# Altium schematic symbol library FPGA_Xilinx.SchLib: 34 symbols (part 1 of 2)
Pins are listed as number, name and electrical type; pins without a type are passive.

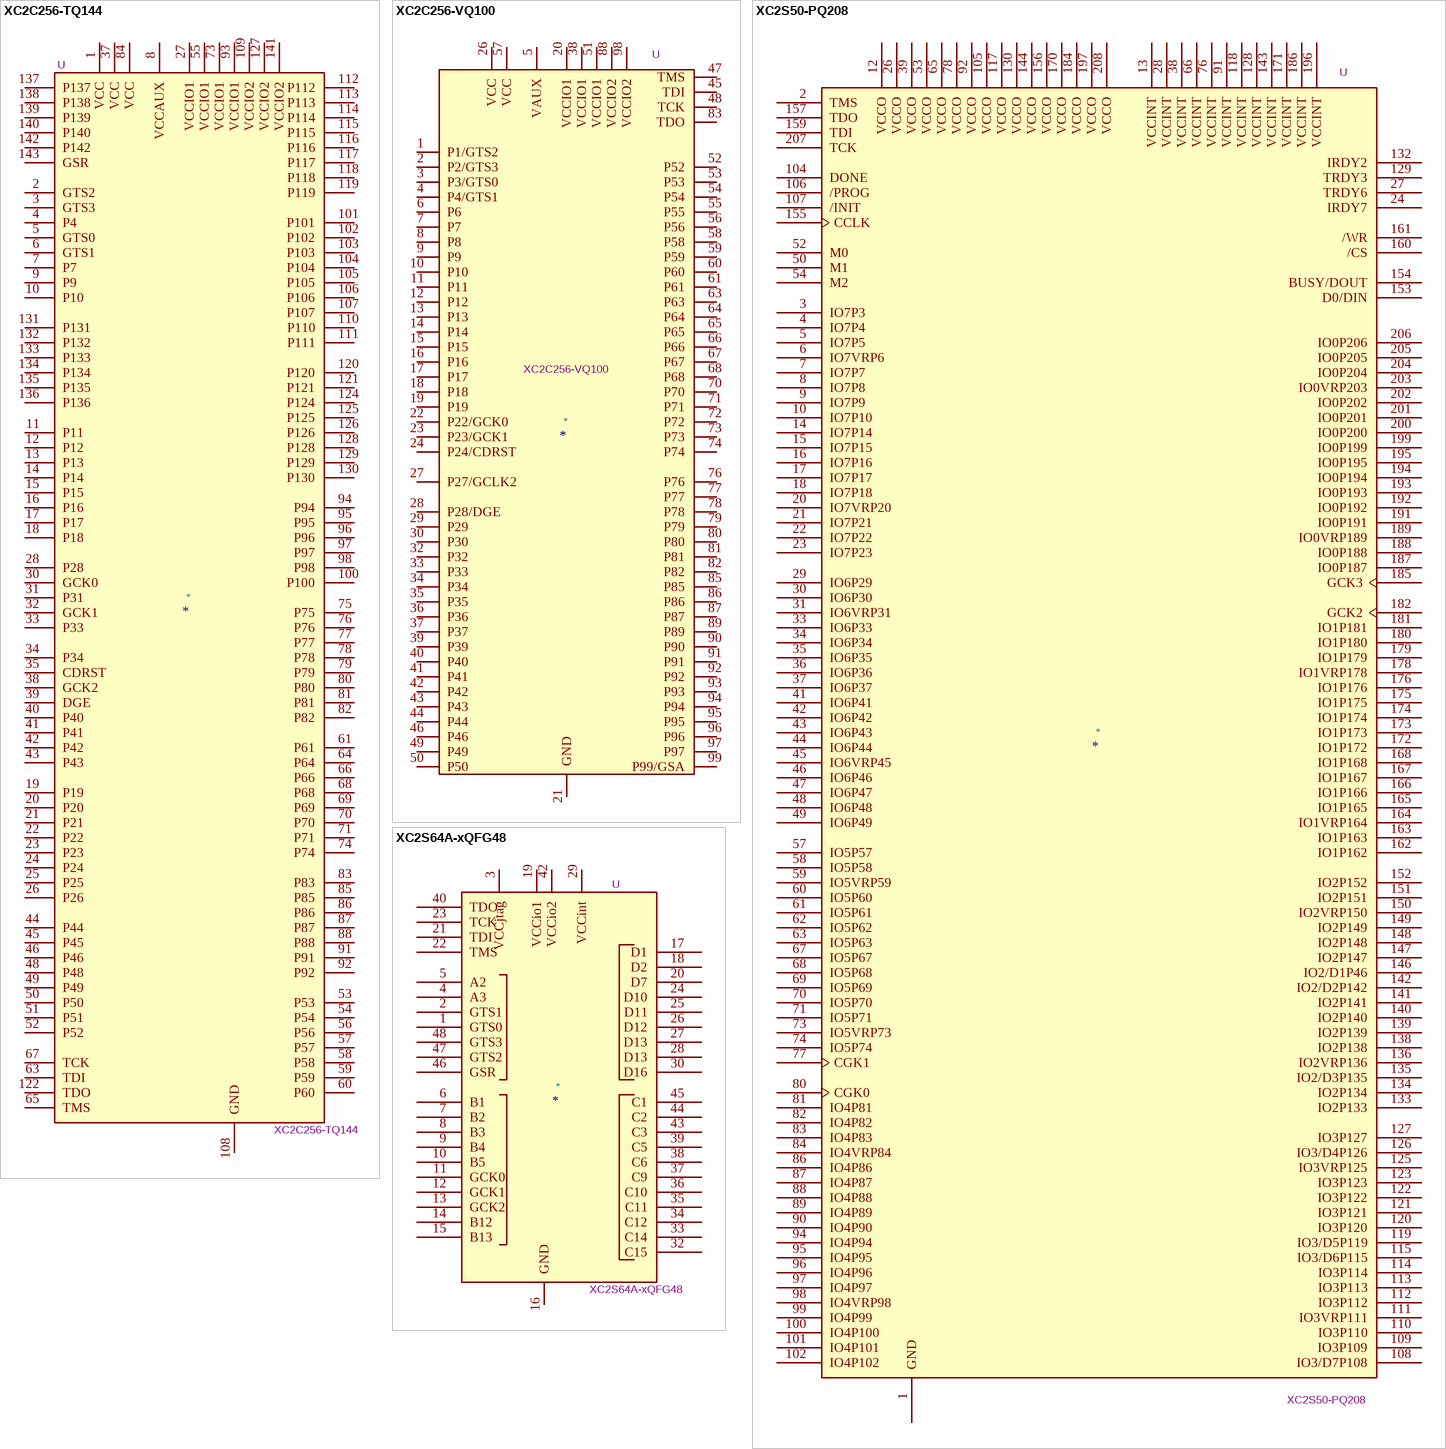
[diagram p0: symbols XC2C256-TQ144 to XC2S64A-xQFG48]

## XC2C256-TQ144
designator *  value XC2C256-TQ144  Reference: U
ki_keywords: CPLD; ki_description: CoolRunner-II CPLD, 256 macrocells; ki_fp_filters: TQFP*20x20mm*P0.5mm*; Footprint: Package_QFP:TQFP-144_20x20mm_P0.5mm; Datasheet: https://www.xilinx.com/support/documentation/data_sheets/ds094.pdf
pins: 1 VCC, 2 GTS2, 3 GTS3, 4 P4, 5 GTS0, 6 GTS1, 7 P7, 8 VCCAUX, 9 P9, 10 P10, 11 P11, 12 P12, 13 P13, 14 P14, 15 P15, 16 P16, 17 P17, 18 P18, 19 P19, 20 P20, 21 P21, 22 P22, 23 P23, 24 P24, 25 P25, 26 P26, 27 VCCIO1, 28 P28, 29 GND hidden, 30 GCK0, 31 P31, 32 GCK1, 33 P33, 34 P34, 35 CDRST, 36 GND hidden, 37 VCC, 38 GCK2, 39 DGE, 40 P40, 41 P41, 42 P42, 43 P43, 44 P44, 45 P45, 46 P46, 47 GND hidden, 48 P48, 49 P49, 50 P50, 51 P51, 52 P52, 53 P53, 54 P54, 55 VCCIO1, 56 P56, 57 P57, 58 P58, 59 P59, 60 P60, 61 P61, 62 GND hidden, 63 TDI, 64 P64, 65 TMS, 66 P66, 67 TCK, 68 P68, 69 P69, 70 P70, 71 P71, 72 GND hidden, 73 VCCIO1, 74 P74, 75 P75, 76 P76, 77 P77, 78 P78, 79 P79, 80 P80, 81 P81, 82 P82, 83 P83, 84 VCC, 85 P85, 86 P86, 87 P87, 88 P88, 89 GND hidden, 90 GND hidden, 91 P91, 92 P92, 93 VCCIO1, 94 P94, 95 P95, 96 P96, 97 P97, 98 P98, 99 GND hidden, 100 P100, 101 P101, 102 P102, 103 P103, 104 P104, 105 P105, 106 P106, 107 P107, 108 GND, 109 VCCIO2, 110 P110, 111 P111, 112 P112, 113 P113, 114 P114, 115 P115, 116 P116, 117 P117, 118 P118, 119 P119, 120 P120, 121 P121, 122 TDO, 123 GND hidden, 124 P124, 125 P125, 126 P126, 127 VCCIO2, 128 P128, 129 P129, 130 P130, 131 P131, 132 P132, 133 P133, 134 P134, 135 P135, 136 P136, 137 P137, 138 P138, 139 P139, 140 P140, 141 VCCIO2, 142 P142, 143 GSR, 144 GND hidden

## XC2C256-VQ100
designator *  value XC2C256-VQ100  Reference: U
ki_keywords: CPLD; ki_description: CoolRunner-II CPLD, 256 macrocells, VQFP-100; ki_fp_filters: VQFP*14x14mm*P0.5mm*; Footprint: Package_QFP:VQFP-100_14x14mm_P0.5mm; Datasheet: https://www.xilinx.com/support/documentation/data_sheets/ds094.pdf
pins: 1 P1/GTS2, 2 P2/GTS3, 3 P3/GTS0, 4 P4/GTS1, 5 VAUX, 6 P6, 7 P7, 8 P8, 9 P9, 10 P10, 11 P11, 12 P12, 13 P13, 14 P14, 15 P15, 16 P16, 17 P17, 18 P18, 19 P19, 20 VCCIO1, 21 GND, 22 P22/GCK0, 23 P23/GCK1, 24 P24/CDRST, 25 GND hidden, 26 VCC, 27 P27/GCLK2, 28 P28/DGE, 29 P29, 30 P30, 31 GND hidden, 32 P32, 33 P33, 34 P34, 35 P35, 36 P36, 37 P37, 38 VCCIO1, 39 P39, 40 P40, 41 P41, 42 P42, 43 P43, 44 P44, 45 TDI, 46 P46, 47 TMS, 48 TCK, 49 P49, 50 P50, 51 VCCIO1, 52 P52, 53 P53, 54 P54, 55 P55, 56 P56, 57 VCC, 58 P58, 59 P59, 60 P60, 61 P61, 62 GND hidden, 63 P63, 64 P64, 65 P65, 66 P66, 67 P67, 68 P68, 69 GND hidden, 70 P70, 71 P71, 72 P72, 73 P73, 74 P74, 75 GND hidden, 76 P76, 77 P77, 78 P78, 79 P79, 80 P80, 81 P81, 82 P82, 83 TDO, 84 GND hidden, 85 P85, 86 P86, 87 P87, 88 VCCIO2, 89 P89, 90 P90, 91 P91, 92 P92, 93 P93, 94 P94, 95 P95, 96 P96, 97 P97, 98 VCCIO2, 99 P99/GSA, 100 GND hidden

## XC2S50-PQ208
designator *  value XC2S50-PQ208  Reference: U
pins: 1 GND, 2 TMS, 3 IO7P3, 4 IO7P4, 5 IO7P5, 6 IO7VRP6, 7 IO7P7, 8 IO7P8, 9 IO7P9, 10 IO7P10, 11 GND hidden, 12 VCCO, 13 VCCINT, 14 IO7P14, 15 IO7P15, 16 IO7P16, 17 IO7P17, 18 IO7P18, 19 GND hidden, 20 IO7VRP20, 21 IO7P21, 22 IO7P22, 23 IO7P23, 24 IRDY7, 25 GND hidden, 26 VCCO, 27 TRDY6, 28 VCCINT, 29 IO6P29, 30 IO6P30, 31 IO6VRP31, 32 GND hidden, 33 IO6P33, 34 IO6P34, 35 IO6P35, 36 IO6P36, 37 IO6P37, 38 VCCINT, 39 VCCO, 40 GND hidden, 41 IO6P41, 42 IO6P42, 43 IO6P43, 44 IO6P44, 45 IO6VRP45, 46 IO6P46, 47 IO6P47, 48 IO6P48, 49 IO6P49, 50 M1, 51 GND hidden, 52 M0, 53 VCCO, 54 M2, 57 IO5P57, 58 IO5P58, 59 IO5VRP59, 60 IO5P60, 61 IO5P61, 62 IO5P62, 63 IO5P63, 64 GND hidden, 65 VCCO, 66 VCCINT, 67 IO5P67, 68 IO5P68, 69 IO5P69, 70 IO5P70, 71 IO5P71, 72 GND hidden, 73 IO5VRP73, 74 IO5P74, 76 VCCINT, 77 CGK1, 78 VCCO, 79 GND hidden, 80 CGK0, 81 IO4P81, 82 IO4P82, 83 IO4P83, 84 IO4VRP84, 85 GND hidden, 86 IO4P86, 87 IO4P87, 88 IO4P88, 89 IO4P89, 90 IO4P90, 91 VCCINT, 92 VCCO, 93 GND hidden, 94 IO4P94, 95 IO4P95, 96 IO4P96, 97 IO4P97, 98 IO4VRP98, 99 IO4P99, 100 IO4P100, 101 IO4P101, 102 IO4P102, 103 GND hidden, 104 DONE, 105 VCCO, 106 /PROG, 107 /INIT, 108 IO3/D7P108, 109 IO3P109, 110 IO3P110, 111 IO3VRP111, 112 IO3P112, 113 IO3P113, 114 IO3P114, 115 IO3/D6P115, 116 GND hidden, 117 VCCO, 118 VCCINT, 119 IO3/D5P119, 120 IO3P120, 121 IO3P121, 122 IO3P122, 123 IO3P123, 124 GND hidden, 125 IO3VRP125, 126 IO3/D4P126, 127 IO3P127, 128 VCCINT, 129 TRDY3, 130 VCCO, 131 GND hidden, 132 IRDY2, 133 IO2P133, 134 IO2P134, 135 IO2/D3P135, 136 IO2VRP136, 137 GND hidden, 138 IO2P138, 139 IO2P139, 140 IO2P140, 141 IO2P141, 142 IO2/D2P142, 143 VCCINT, 144 VCCO, 145 GND hidden, 146 IO2/D1P46, 147 IO2P147, 148 IO2P148, 149 IO2P149, 150 IO2VRP150, 151 IO2P151, 152 IO2P152, 153 D0/DIN, 154 BUSY/DOUT, 155 CCLK, 156 VCCO, 157 TDO, 158 GND hidden, 159 TDI, 160 /CS, 161 /WR, 162 IO1P162, 163 IO1P163, 164 IO1VRP164, 165 IO1P165, 166 IO1P166, 167 IO1P167, 168 IO1P168, 169 GND hidden, 170 VCCO, 171 VCCINT, 172 IO1P172, 173 IO1P173, 174 IO1P174, 175 IO1P175, 176 IO1P176, 177 GND hidden, 178 IO1VRP178, 179 IO1P179, 180 IO1P180, 181 IO1P181, 182 GCK2, 183 GND hidden, 184 VCCO, 185 GCK3, 186 VCCINT, 187 IO0P187, 188 IO0P188, 189 IO0VRP189, 190 GND hidden, 191 IO0P191, 192 IO0P192, 193 IO0P193, 194 IO0P194, 195 IO0P195, 196 VCCINT, 197 VCCO, 198 GND hidden, 199 IO0P199, 200 IO0P200, 201 IO0P201, 202 IO0P202, 203 IO0VRP203, 204 IO0P204, 205 IO0P205, 206 IO0P206, 207 TCK, 208 VCCO

## XC2S64A-xQFG48
designator *  value XC2S64A-xQFG48  Reference: U
ki_description: Xilinx CoolRunner; Datasheet: xilinx/xc2c64.pdf
pins: 1 GTS0, 2 GTS1, 3 VCCjtag, 4 A3, 5 A2, 6 B1, 7 B2, 8 B3, 9 B4, 10 B5, 11 GCK0, 12 GCK1, 13 GCK2, 14 B12, 15 B13, 16 GND, 17 D1, 18 D2, 19 VCCio1, 20 D7, 21 TDI, 22 TMS, 23 TCK, 24 D10, 25 D11, 26 D12, 27 D13, 28 D13, 29 VCCint, 30 D16, 31 GND hidden, 32 C15, 33 C14, 34 C12, 35 C11, 36 C10, 37 C9, 38 C6, 39 C5, 40 TDO, 41 GND hidden, 42 VCCio2, 43 C3, 44 C2, 45 C1, 46 GSR, 47 GTS2, 48 GTS3

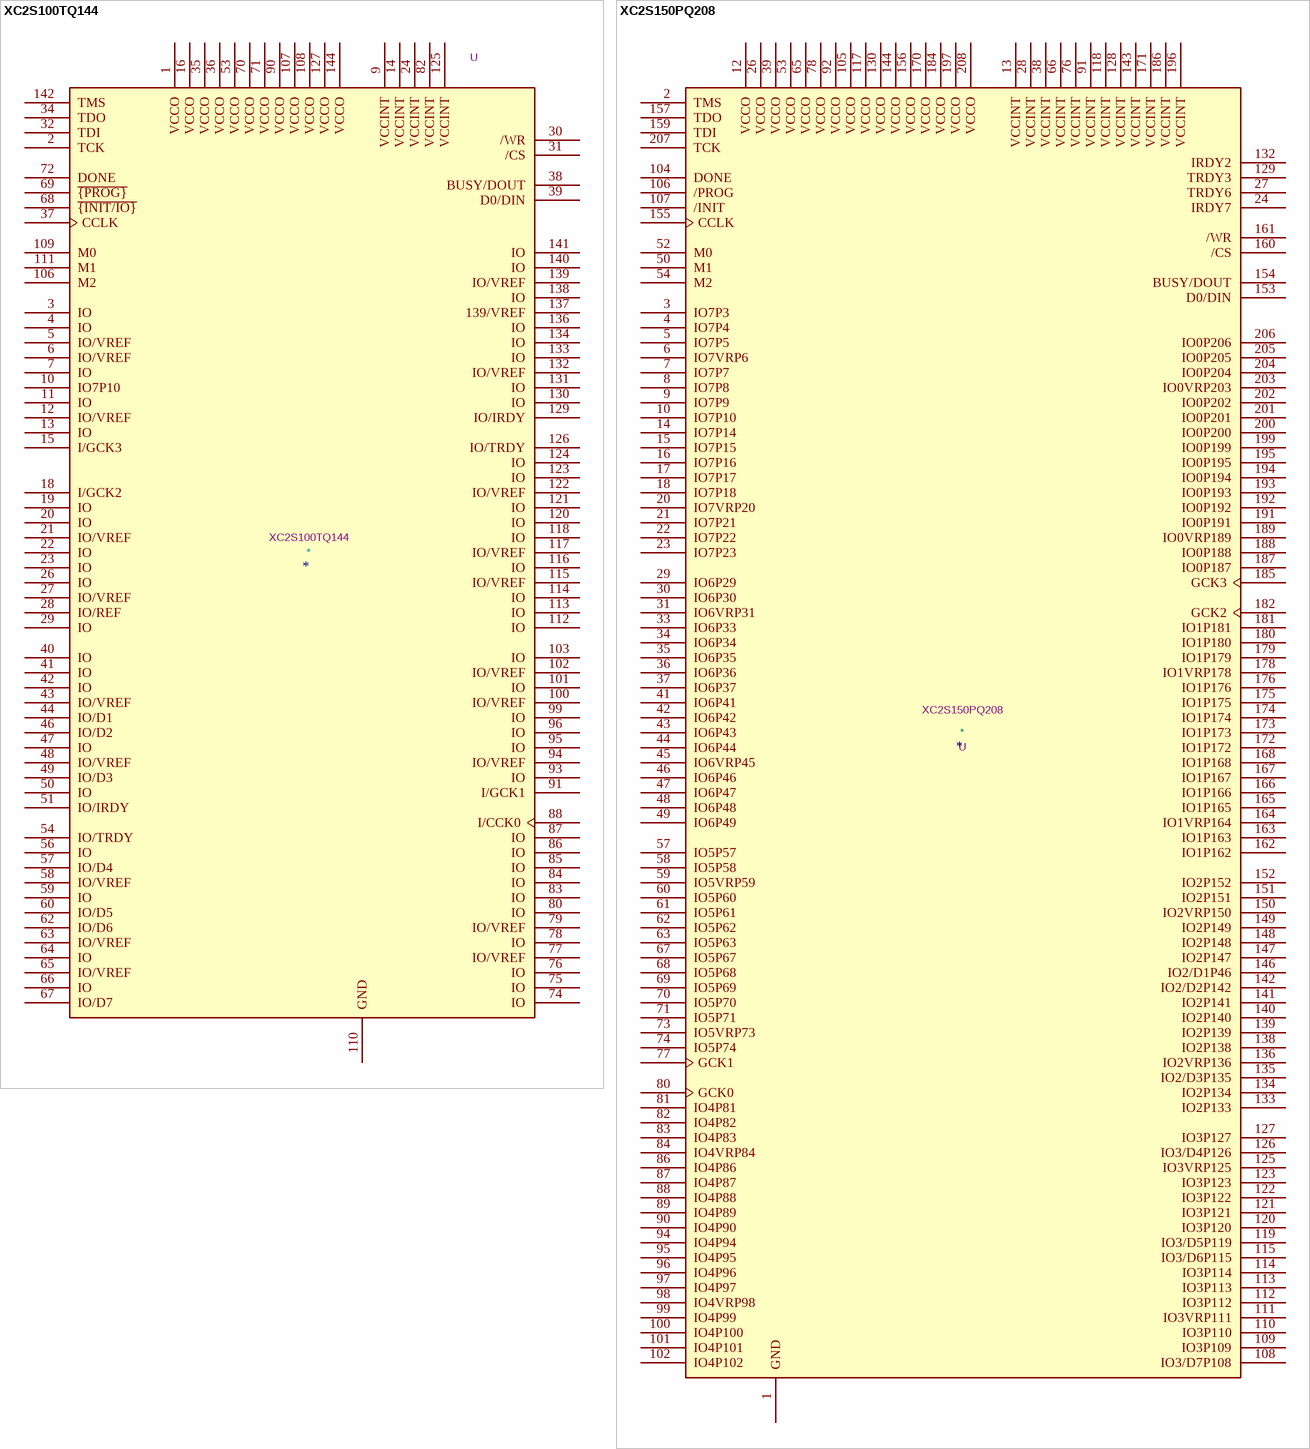
[diagram p1: symbols XC2S100TQ144 to XC2S150PQ208]

## XC2S100TQ144
designator *  value XC2S100TQ144  Reference: U
ki_keywords: FPGA; ki_description: spartan 2; Datasheet: xilinx/spartan2e/spartan2e.pdf
pins: 1 VCCO, 2 TCK, 3 IO, 4 IO, 5 IO/VREF, 6 IO/VREF, 7 IO, 8 GND hidden, 9 VCCINT, 10 IO7P10, 11 IO, 12 IO/VREF, 13 IO, 14 VCCINT, 15 I/GCK3, 16 VCCO, 17 GND hidden, 18 I/GCK2, 19 IO, 20 IO, 21 IO/VREF, 22 IO, 23 IO, 24 VCCINT, 25 GND hidden, 26 IO, 27 IO/VREF, 28 IO/REF, 29 IO, 30 /WR, 31 /CS, 32 TDI, 33 GND hidden, 34 TDO, 35 VCCO, 36 VCCO, 37 CCLK, 38 BUSY/DOUT, 39 D0/DIN, 40 IO, 41 IO, 42 IO, 43 IO/VREF, 44 IO/D1, 45 GND hidden, 46 IO/D2, 47 IO, 48 IO/VREF, 49 IO/D3, 50 IO, 51 IO/IRDY, 52 GND hidden, 53 VCCO, 54 IO/TRDY, 56 IO, 57 IO/D4, 58 IO/VREF, 59 IO, 60 IO/D5, 61 GND hidden, 62 IO/D6, 63 IO/VREF, 64 IO, 65 IO/VREF, 66 IO, 67 IO/D7, 68 ~{{INIT/IO}}, 69 ~{{PROG}}, 70 VCCO, 71 VCCO, 72 DONE, 73 GND hidden, 74 IO, 75 IO, 76 IO, 77 IO/VREF, 78 IO, 79 IO/VREF, 80 IO, 81 GND hidden, 82 VCCINT, 83 IO, 84 IO, 85 IO, 86 IO, 87 IO, 88 I/CCK0, 89 GND hidden, 90 VCCO, 91 I/GCK1, 93 IO, 94 IO/VREF, 95 IO, 96 IO, 98 GND hidden, 99 IO, 100 IO/VREF, 101 IO, 102 IO/VREF, 103 IO, 106 M2, 107 VCCO, 108 VCCO, 109 M0, 110 GND, 111 M1, 112 IO, 113 IO, 114 IO, 115 IO/VREF, 116 IO, 117 IO/VREF, 118 IO, 119 GND hidden, 120 IO, 121 IO, 122 IO/VREF, 123 IO, 124 IO, 125 VCCINT, 126 IO/TRDY, 127 VCCO, 128 GND hidden, 129 IO/IRDY, 130 IO, 131 IO, 132 IO/VREF, 133 IO, 134 IO, 135 GND hidden, 136 IO, 137 139/VREF, 138 IO, 139 IO/VREF, 140 IO, 141 IO, 142 TMS, 143 GND hidden, 144 VCCO

## XC2S150PQ208
designator *  value XC2S150PQ208  Reference: U
ki_keywords: FPGA; Datasheet: xilinx/spartan2e/spartan2e.pdf
pins: 1 GND, 2 TMS, 3 IO7P3, 4 IO7P4, 5 IO7P5, 6 IO7VRP6, 7 IO7P7, 8 IO7P8, 9 IO7P9, 10 IO7P10, 11 GND hidden, 12 VCCO, 13 VCCINT, 14 IO7P14, 15 IO7P15, 16 IO7P16, 17 IO7P17, 18 IO7P18, 19 GND hidden, 20 IO7VRP20, 21 IO7P21, 22 IO7P22, 23 IO7P23, 24 IRDY7, 25 GND hidden, 26 VCCO, 27 TRDY6, 28 VCCINT, 29 IO6P29, 30 IO6P30, 31 IO6VRP31, 32 GND hidden, 33 IO6P33, 34 IO6P34, 35 IO6P35, 36 IO6P36, 37 IO6P37, 38 VCCINT, 39 VCCO, 40 GND hidden, 41 IO6P41, 42 IO6P42, 43 IO6P43, 44 IO6P44, 45 IO6VRP45, 46 IO6P46, 47 IO6P47, 48 IO6P48, 49 IO6P49, 50 M1, 51 GND hidden, 52 M0, 53 VCCO, 54 M2, 57 IO5P57, 58 IO5P58, 59 IO5VRP59, 60 IO5P60, 61 IO5P61, 62 IO5P62, 63 IO5P63, 64 GND hidden, 65 VCCO, 66 VCCINT, 67 IO5P67, 68 IO5P68, 69 IO5P69, 70 IO5P70, 71 IO5P71, 72 GND hidden, 73 IO5VRP73, 74 IO5P74, 76 VCCINT, 77 GCK1, 78 VCCO, 79 GND hidden, 80 GCK0, 81 IO4P81, 82 IO4P82, 83 IO4P83, 84 IO4VRP84, 85 GND hidden, 86 IO4P86, 87 IO4P87, 88 IO4P88, 89 IO4P89, 90 IO4P90, 91 VCCINT, 92 VCCO, 93 GND hidden, 94 IO4P94, 95 IO4P95, 96 IO4P96, 97 IO4P97, 98 IO4VRP98, 99 IO4P99, 100 IO4P100, 101 IO4P101, 102 IO4P102, 103 GND hidden, 104 DONE, 105 VCCO, 106 /PROG, 107 /INIT, 108 IO3/D7P108, 109 IO3P109, 110 IO3P110, 111 IO3VRP111, 112 IO3P112, 113 IO3P113, 114 IO3P114, 115 IO3/D6P115, 116 GND hidden, 117 VCCO, 118 VCCINT, 119 IO3/D5P119, 120 IO3P120, 121 IO3P121, 122 IO3P122, 123 IO3P123, 124 GND hidden, 125 IO3VRP125, 126 IO3/D4P126, 127 IO3P127, 128 VCCINT, 129 TRDY3, 130 VCCO, 131 GND hidden, 132 IRDY2, 133 IO2P133, 134 IO2P134, 135 IO2/D3P135, 136 IO2VRP136, 137 GND hidden, 138 IO2P138, 139 IO2P139, 140 IO2P140, 141 IO2P141, 142 IO2/D2P142, 143 VCCINT, 144 VCCO, 145 GND hidden, 146 IO2/D1P46, 147 IO2P147, 148 IO2P148, 149 IO2P149, 150 IO2VRP150, 151 IO2P151, 152 IO2P152, 153 D0/DIN, 154 BUSY/DOUT, 155 CCLK, 156 VCCO, 157 TDO, 158 GND hidden, 159 TDI, 160 /CS, 161 /WR, 162 IO1P162, 163 IO1P163, 164 IO1VRP164, 165 IO1P165, 166 IO1P166, 167 IO1P167, 168 IO1P168, 169 GND hidden, 170 VCCO, 171 VCCINT, 172 IO1P172, 173 IO1P173, 174 IO1P174, 175 IO1P175, 176 IO1P176, 177 GND hidden, 178 IO1VRP178, 179 IO1P179, 180 IO1P180, 181 IO1P181, 182 GCK2, 183 GND hidden, 184 VCCO, 185 GCK3, 186 VCCINT, 187 IO0P187, 188 IO0P188, 189 IO0VRP189, 190 GND hidden, 191 IO0P191, 192 IO0P192, 193 IO0P193, 194 IO0P194, 195 IO0P195, 196 VCCINT, 197 VCCO, 198 GND hidden, 199 IO0P199, 200 IO0P200, 201 IO0P201, 202 IO0P202, 203 IO0VRP203, 204 IO0P204, 205 IO0P205, 206 IO0P206, 207 TCK, 208 VCCO

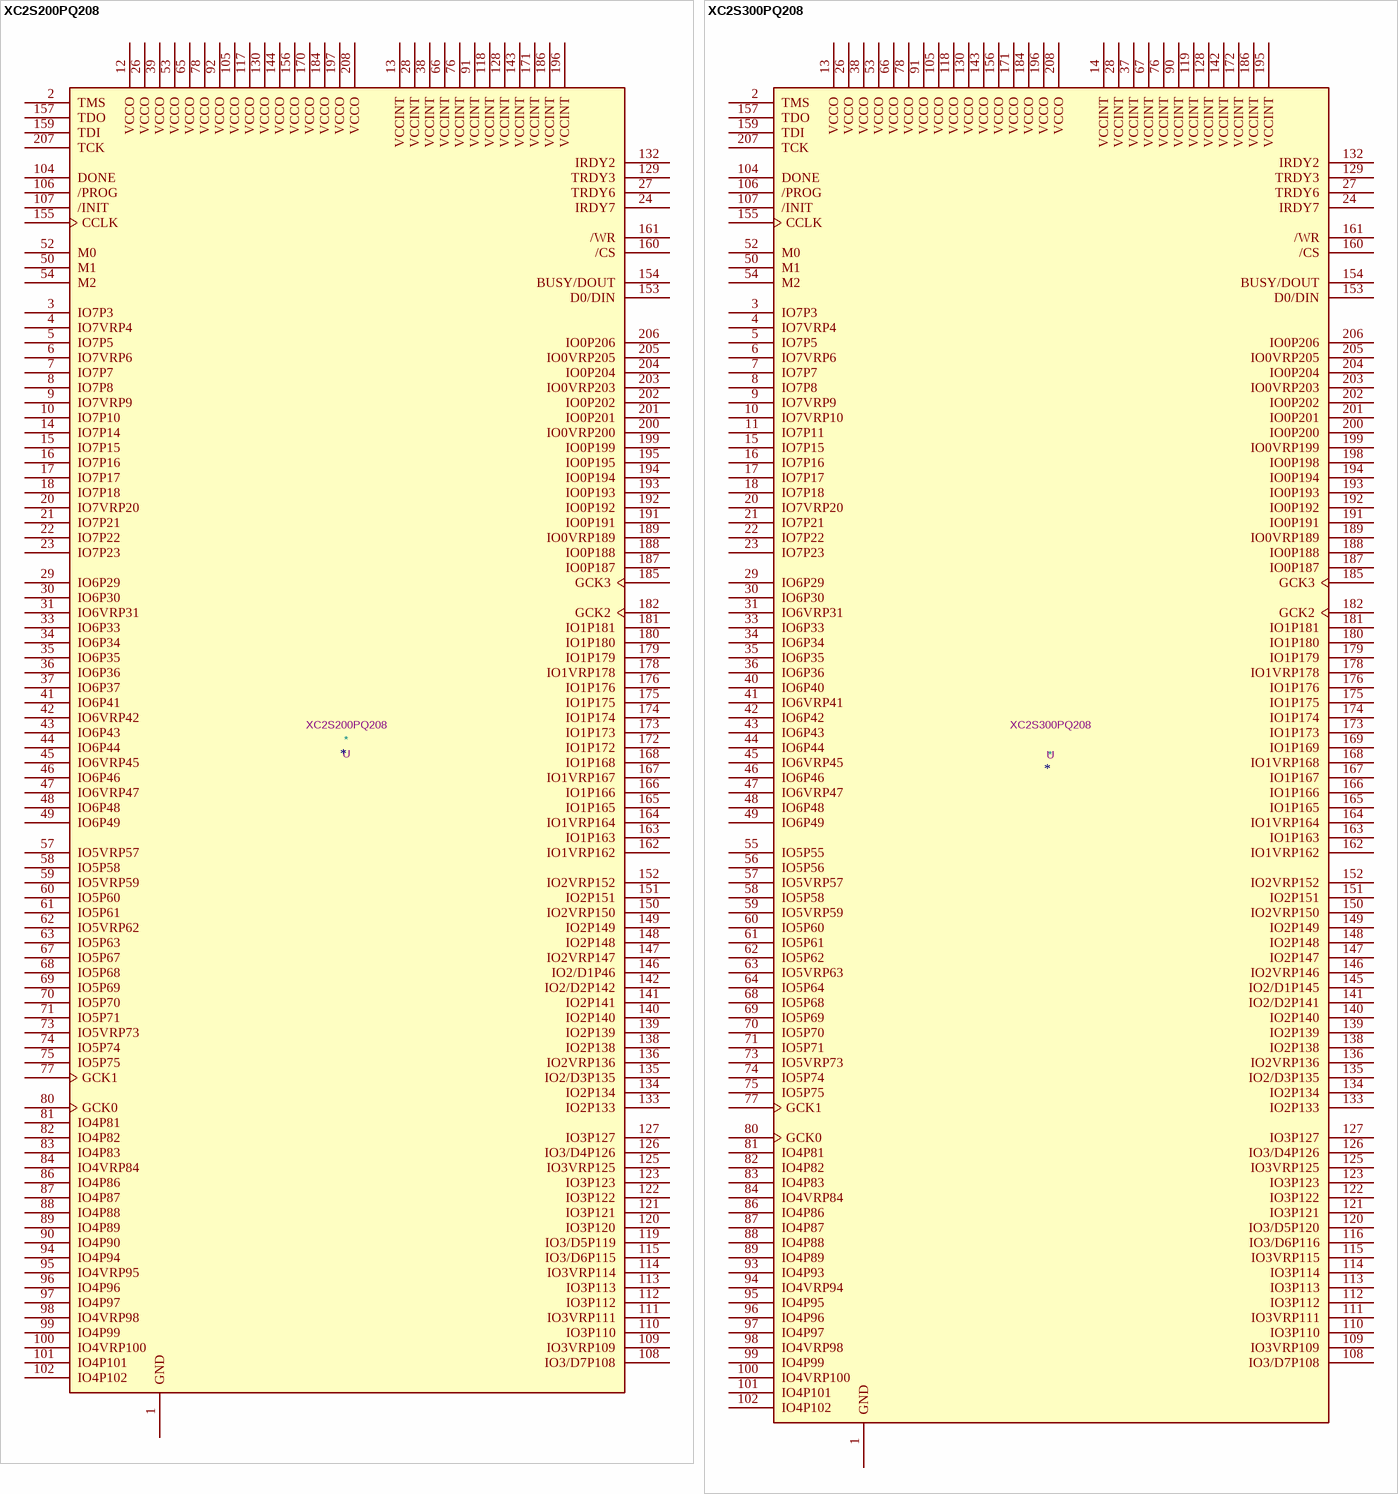
[diagram p2: symbols XC2S200PQ208 to XC2S300PQ208]

## XC2S200PQ208
designator *  value XC2S200PQ208  Reference: U
ki_keywords: FPGA; Datasheet: xilinx/spartan2e/spartan2e.pdf
pins: 1 GND, 2 TMS, 3 IO7P3, 4 IO7VRP4, 5 IO7P5, 6 IO7VRP6, 7 IO7P7, 8 IO7P8, 9 IO7VRP9, 10 IO7P10, 11 GND hidden, 12 VCCO, 13 VCCINT, 14 IO7P14, 15 IO7P15, 16 IO7P16, 17 IO7P17, 18 IO7P18, 19 GND hidden, 20 IO7VRP20, 21 IO7P21, 22 IO7P22, 23 IO7P23, 24 IRDY7, 25 GND hidden, 26 VCCO, 27 TRDY6, 28 VCCINT, 29 IO6P29, 30 IO6P30, 31 IO6VRP31, 32 GND hidden, 33 IO6P33, 34 IO6P34, 35 IO6P35, 36 IO6P36, 37 IO6P37, 38 VCCINT, 39 VCCO, 40 GND hidden, 41 IO6P41, 42 IO6VRP42, 43 IO6P43, 44 IO6P44, 45 IO6VRP45, 46 IO6P46, 47 IO6VRP47, 48 IO6P48, 49 IO6P49, 50 M1, 51 GND hidden, 52 M0, 53 VCCO, 54 M2, 57 IO5VRP57, 58 IO5P58, 59 IO5VRP59, 60 IO5P60, 61 IO5P61, 62 IO5VRP62, 63 IO5P63, 64 GND hidden, 65 VCCO, 66 VCCINT, 67 IO5P67, 68 IO5P68, 69 IO5P69, 70 IO5P70, 71 IO5P71, 72 GND hidden, 73 IO5VRP73, 74 IO5P74, 75 IO5P75, 76 VCCINT, 77 GCK1, 78 VCCO, 79 GND hidden, 80 GCK0, 81 IO4P81, 82 IO4P82, 83 IO4P83, 84 IO4VRP84, 85 GND hidden, 86 IO4P86, 87 IO4P87, 88 IO4P88, 89 IO4P89, 90 IO4P90, 91 VCCINT, 92 VCCO, 93 GND hidden, 94 IO4P94, 95 IO4VRP95, 96 IO4P96, 97 IO4P97, 98 IO4VRP98, 99 IO4P99, 100 IO4VRP100, 101 IO4P101, 102 IO4P102, 103 GND hidden, 104 DONE, 105 VCCO, 106 /PROG, 107 /INIT, 108 IO3/D7P108, 109 IO3VRP109, 110 IO3P110, 111 IO3VRP111, 112 IO3P112, 113 IO3P113, 114 IO3VRP114, 115 IO3/D6P115, 116 GND hidden, 117 VCCO, 118 VCCINT, 119 IO3/D5P119, 120 IO3P120, 121 IO3P121, 122 IO3P122, 123 IO3P123, 124 GND hidden, 125 IO3VRP125, 126 IO3/D4P126, 127 IO3P127, 128 VCCINT, 129 TRDY3, 130 VCCO, 131 GND hidden, 132 IRDY2, 133 IO2P133, 134 IO2P134, 135 IO2/D3P135, 136 IO2VRP136, 137 GND hidden, 138 IO2P138, 139 IO2P139, 140 IO2P140, 141 IO2P141, 142 IO2/D2P142, 143 VCCINT, 144 VCCO, 145 GND hidden, 146 IO2/D1P46, 147 IO2VRP147, 148 IO2P148, 149 IO2P149, 150 IO2VRP150, 151 IO2P151, 152 IO2VRP152, 153 D0/DIN, 154 BUSY/DOUT, 155 CCLK, 156 VCCO, 157 TDO, 158 GND hidden, 159 TDI, 160 /CS, 161 /WR, 162 IO1VRP162, 163 IO1P163, 164 IO1VRP164, 165 IO1P165, 166 IO1P166, 167 IO1VRP167, 168 IO1P168, 169 GND hidden, 170 VCCO, 171 VCCINT, 172 IO1P172, 173 IO1P173, 174 IO1P174, 175 IO1P175, 176 IO1P176, 177 GND hidden, 178 IO1VRP178, 179 IO1P179, 180 IO1P180, 181 IO1P181, 182 GCK2, 183 GND hidden, 184 VCCO, 185 GCK3, 186 VCCINT, 187 IO0P187, 188 IO0P188, 189 IO0VRP189, 190 GND hidden, 191 IO0P191, 192 IO0P192, 193 IO0P193, 194 IO0P194, 195 IO0P195, 196 VCCINT, 197 VCCO, 198 GND hidden, 199 IO0P199, 200 IO0VRP200, 201 IO0P201, 202 IO0P202, 203 IO0VRP203, 204 IO0P204, 205 IO0VRP205, 206 IO0P206, 207 TCK, 208 VCCO

## XC2S300PQ208
designator *  value XC2S300PQ208  Reference: U
Datasheet: xilinx/spartan2e/spartan2e.pdf
pins: 1 GND, 2 TMS, 3 IO7P3, 4 IO7VRP4, 5 IO7P5, 6 IO7VRP6, 7 IO7P7, 8 IO7P8, 9 IO7VRP9, 10 IO7VRP10, 11 IO7P11, 12 GND hidden, 13 VCCO, 14 VCCINT, 15 IO7P15, 16 IO7P16, 17 IO7P17, 18 IO7P18, 19 GND hidden, 20 IO7VRP20, 21 IO7P21, 22 IO7P22, 23 IO7P23, 24 IRDY7, 25 GND hidden, 26 VCCO, 27 TRDY6, 28 VCCINT, 29 IO6P29, 30 IO6P30, 31 IO6VRP31, 32 GND hidden, 33 IO6P33, 34 IO6P34, 35 IO6P35, 36 IO6P36, 37 VCCINT, 38 VCCO, 39 GND hidden, 40 IO6P40, 41 IO6VRP41, 42 IO6P42, 43 IO6P43, 44 IO6P44, 45 IO6VRP45, 46 IO6P46, 47 IO6VRP47, 48 IO6P48, 49 IO6P49, 50 M1, 51 GND hidden, 52 M0, 53 VCCO, 54 M2, 55 IO5P55, 56 IO5P56, 57 IO5VRP57, 58 IO5P58, 59 IO5VRP59, 60 IO5P60, 61 IO5P61, 62 IO5P62, 63 IO5VRP63, 64 IO5P64, 65 GND hidden, 66 VCCO, 67 VCCINT, 68 IO5P68, 69 IO5P69, 70 IO5P70, 71 IO5P71, 72 GND hidden, 73 IO5VRP73, 74 IO5P74, 75 IO5P75, 76 VCCINT, 77 GCK1, 78 VCCO, 79 GND hidden, 80 GCK0, 81 IO4P81, 82 IO4P82, 83 IO4P83, 84 IO4VRP84, 85 GND hidden, 86 IO4P86, 87 IO4P87, 88 IO4P88, 89 IO4P89, 90 VCCINT, 91 VCCO, 92 GND hidden, 93 IO4P93, 94 IO4VRP94, 95 IO4P95, 96 IO4P96, 97 IO4P97, 98 IO4VRP98, 99 IO4P99, 100 IO4VRP100, 101 IO4P101, 102 IO4P102, 103 GND hidden, 104 DONE, 105 VCCO, 106 /PROG, 107 /INIT, 108 IO3/D7P108, 109 IO3VRP109, 110 IO3P110, 111 IO3VRP111, 112 IO3P112, 113 IO3P113, 114 IO3P114, 115 IO3VRP115, 116 IO3/D6P116, 117 GND hidden, 118 VCCO, 119 VCCINT, 120 IO3/D5P120, 121 IO3P121, 122 IO3P122, 123 IO3P123, 124 GND hidden, 125 IO3VRP125, 126 IO3/D4P126, 127 IO3P127, 128 VCCINT, 129 TRDY3, 130 VCCO, 131 GND hidden, 132 IRDY2, 133 IO2P133, 134 IO2P134, 135 IO2/D3P135, 136 IO2VRP136, 137 GND hidden, 138 IO2P138, 139 IO2P139, 140 IO2P140, 141 IO2/D2P141, 142 VCCINT, 143 VCCO, 144 GND hidden, 145 IO2/D1P145, 146 IO2VRP146, 147 IO2P147, 148 IO2P148, 149 IO2P149, 150 IO2VRP150, 151 IO2P151, 152 IO2VRP152, 153 D0/DIN, 154 BUSY/DOUT, 155 CCLK, 156 VCCO, 157 TDO, 158 GND hidden, 159 TDI, 160 /CS, 161 /WR, 162 IO1VRP162, 163 IO1P163, 164 IO1VRP164, 165 IO1P165, 166 IO1P166, 167 IO1P167, 168 IO1VRP168, 169 IO1P169, 170 GND hidden, 171 VCCO, 172 VCCINT, 173 IO1P173, 174 IO1P174, 175 IO1P175, 176 IO1P176, 177 GND hidden, 178 IO1VRP178, 179 IO1P179, 180 IO1P180, 181 IO1P181, 182 GCK2, 183 GND hidden, 184 VCCO, 185 GCK3, 186 VCCINT, 187 IO0P187, 188 IO0P188, 189 IO0VRP189, 190 GND hidden, 191 IO0P191, 192 IO0P192, 193 IO0P193, 194 IO0P194, 195 VCCINT, 196 VCCO, 197 GND hidden, 198 IO0P198, 199 IO0VRP199, 200 IO0P200, 201 IO0P201, 202 IO0P202, 203 IO0VRP203, 204 IO0P204, 205 IO0VRP205, 206 IO0P206, 207 TCK, 208 VCCO

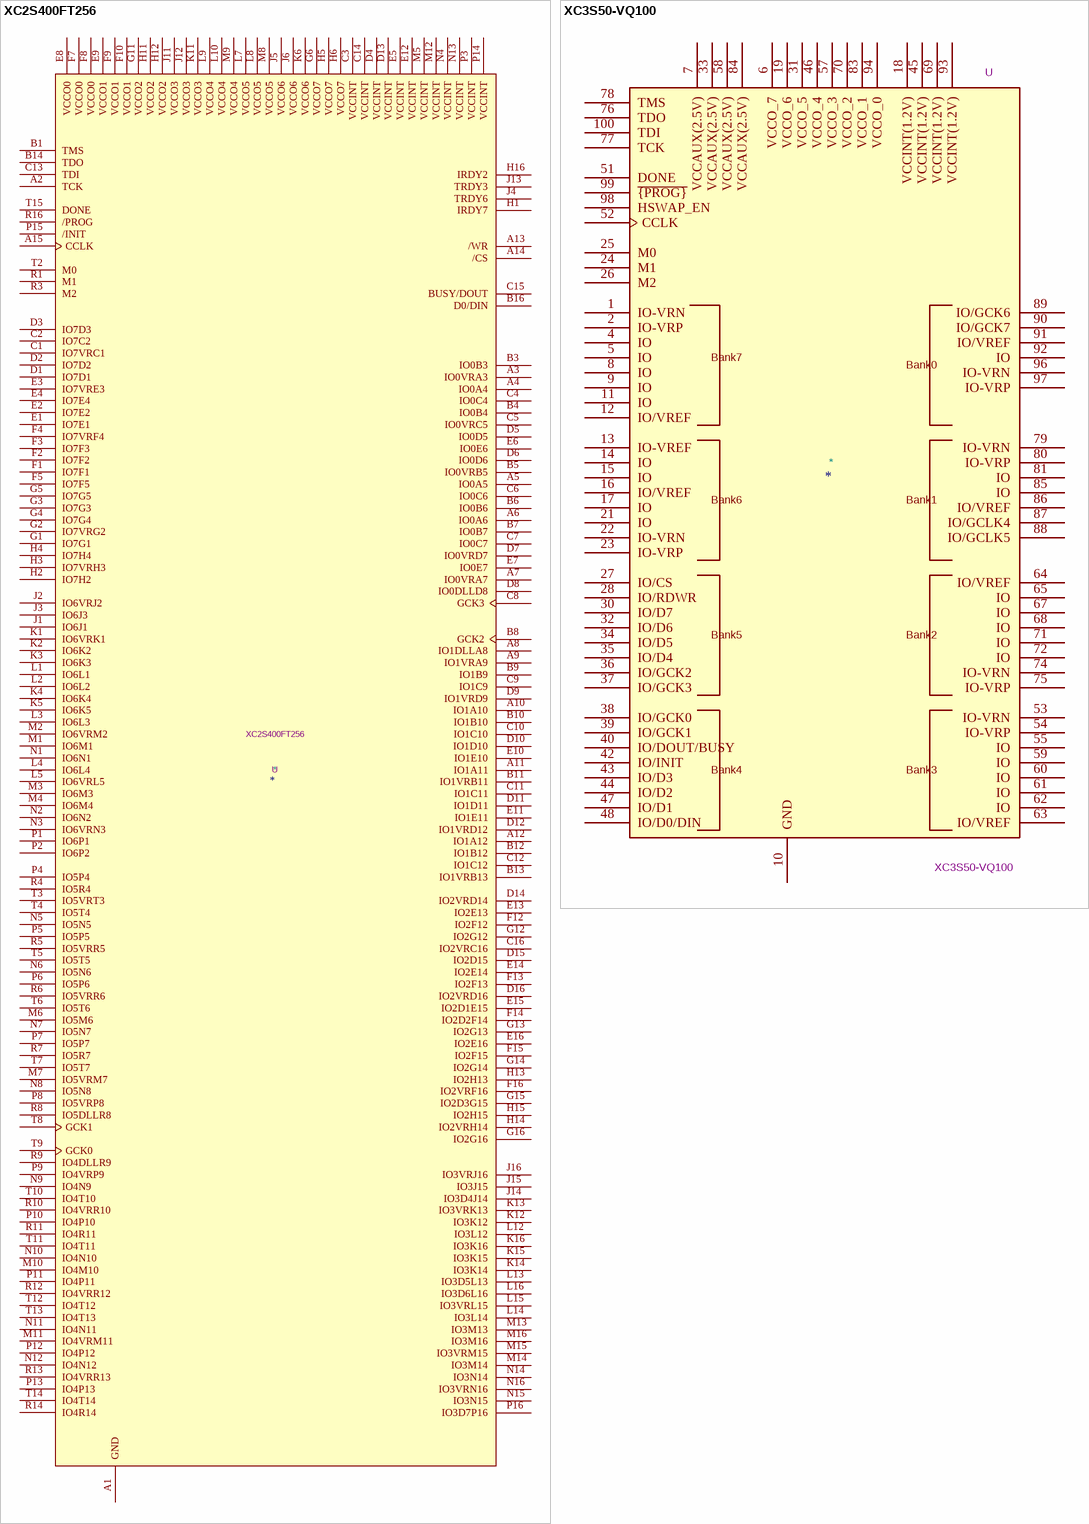
[diagram p3: symbols XC2S400FT256 to XC3S50-VQ100]

## XC2S400FT256
designator *  value XC2S400FT256  Reference: U
pins: A1 GND, A2 TCK, A3 IO0VRA3, A4 IO0A4, A5 IO0A5, A6 IO0A6, A7 IO0VRA7, A8 IO1DLLA8, A9 IO1VRA9, A10 IO1A10, A11 IO1A11, A12 IO1A12, A13 /WR, A14 /CS, A15 CCLK, A16 GND hidden, B1 TMS, B2 GND hidden, B3 IO0B3, B4 IO0B4, B5 IO0VRB5, B6 IO0B6, B7 IO0B7, B8 GCK2, B9 IO1B9, B10 IO1B10, B11 IO1VRB11, B12 IO1B12, B13 IO1VRB13, B14 TDO, B15 GND hidden, B16 D0/DIN, C1 IO7VRC1, C2 IO7C2, C3 VCCINT, C4 IO0C4, C5 IO0VRC5, C6 IO0C6, C7 IO0C7, C8 GCK3, C9 IO1C9, C10 IO1C10, C11 IO1C11, C12 IO1C12, C13 TDI, C14 VCCINT, C15 BUSY/DOUT, C16 IO2VRC16, D1 IO7D1, D2 IO7D2, D3 IO7D3, D4 VCCINT, D5 IO0D5, D6 IO0D6, D7 IO0VRD7, D8 IO0DLLD8, D9 IO1VRD9, D10 IO1D10, D11 IO1D11, D12 IO1VRD12, D13 VCCINT, D14 IO2VRD14, D15 IO2D15, D16 IO2VRD16, E1 IO7E1, E2 IO7E2, E3 IO7VRE3, E4 IO7E4, E5 VCCINT, E6 IO0E6, E7 IO0E7, E8 VCCO0, E9 VCCO1, E10 IO1E10, E11 IO1E11, E12 VCCINT, E13 IO2E13, E14 IO2E14, E15 IO2D1E15, E16 IO2E16, F1 IO7F1, F2 IO7F2, F3 IO7F3, F4 IO7VRF4, F5 IO7F5, F6 GND hidden, F7 VCCO0, F8 VCCO0, F9 VCCO1, F10 VCCO1, F11 GND hidden, F12 IO2F12, F13 IO2F13, F14 IO2D2F14, F15 IO2F15, F16 IO2VRF16, G1 IO7G1, G2 IO7VRG2, G3 IO7G3, G4 IO7G4, G5 IO7G5, G6 VCCO7, G7 GND hidden, G8 GND hidden, G9 GND hidden, G10 GND hidden, G11 VCCO2, G12 IO2G12, G13 IO2G13, G14 IO2G14, G15 IO2D3G15, G16 IO2G16, H1 IRDY7, H2 IO7H2, H3 IO7VRH3, H4 IO7H4, H5 VCCO7, H6 VCCO7, H7 GND hidden, H8 GND hidden, H9 GND hidden, H10 GND hidden, H11 VCCO2, H12 VCCO2, H13 IO2H13, H14 IO2VRH14, H15 IO2H15, H16 IRDY2, J1 IO6J1, J2 IO6VRJ2, J3 IO6J3, J4 TRDY6, J5 VCCO6, J6 VCCO6, J7 GND hidden, J8 GND hidden, J9 GND hidden, J10 GND hidden, J11 VCCO3, J12 VCCO3, J13 TRDY3, J14 IO3D4J14, J15 IO3J15, J16 IO3VRJ16, K1 IO6VRK1, K2 IO6K2, K3 IO6K3, K4 IO6K4, K5 IO6K5, K6 VCCO6, K7 GND hidden, K8 GND hidden, K9 GND hidden, K10 GND hidden, K11 VCCO3, K12 IO3K12, K13 IO3VRK13, K14 IO3K14, K15 IO3K15, K16 IO3K16, L1 IO6L1, L2 IO6L2, L3 IO6L3, L4 IO6L4, L5 IO6VRL5, L6 GND hidden, L7 VCCO5, L8 VCCO5, L9 VCCO4, L10 VCCO4, L11 GND hidden, L12 IO3L12, L13 IO3D5L13, L14 IO3L14, L15 IO3VRL15, L16 IO3D6L16, M1 IO6M1, M2 IO6VRM2, M3 IO6M3, M4 IO6M4, M5 VCCINT, M6 IO5M6, M7 IO5VRM7, M8 VCCO5, M9 VCCO4, M10 IO4M10, M11 IO4VRM11, M12 VCCINT, M13 IO3M13, M14 IO3M14, M15 IO3VRM15, M16 IO3M16, N1 IO6N1, N2 IO6N2, N3 IO6VRN3, N4 VCCINT, N5 IO5N5, N6 IO5N6, N7 IO5N7, N8 IO5N8, N9 IO4N9, N10 IO4N10, N11 IO4N11, N12 IO4N12, N13 VCCINT, N14 IO3N14, N15 IO3N15, N16 IO3VRN16, P1 IO6P1, P2 IO6P2, P3 VCCINT, P4 IO5P4, P5 IO5P5, P6 IO5P6, P7 IO5P7, P8 IO5VRP8, P9 IO4VRP9, P10 IO4P10, P11 IO4P11, P12 IO4P12, P13 IO4P13, P14 VCCINT, P15 /INIT, P16 IO3D7P16, R1 M1, R2 GND hidden, R3 M2, R4 IO5R4, R5 IO5VRR5, R6 IO5VRR6, R7 IO5R7, R8 IO5DLLR8, R9 IO4DLLR9, R10 IO4VRR10, R11 IO4R11, R12 IO4VRR12, R13 IO4VRR13, R14 IO4R14, R15 GND hidden, R16 /PROG, T1 GND hidden, T2 M0, T3 IO5VRT3, T4 IO5T4, T5 IO5T5, T6 IO5T6, T7 IO5T7, T8 GCK1, T9 GCK0, T10 IO4T10, T11 IO4T11, T12 IO4T12, T13 IO4T13, T14 IO4T14, T15 DONE, T16 GND hidden

## XC3S50-VQ100
designator *  value XC3S50-VQ100  Reference: U
ki_keywords: FPGA; ki_description: spartan 2; Datasheet: xilinx/spartan2e/spartan2e.pdf
pins: 1 IO-VRN, 2 IO-VRP, 3 GND hidden, 4 IO, 5 IO, 6 VCCO_7, 7 VCCAUX(2.5V), 8 IO, 9 IO, 10 GND, 11 IO, 12 IO/VREF, 13 IO-VREF, 14 IO, 15 IO, 16 IO/VREF, 17 IO, 18 VCCINT(1.2V), 19 VCCO_6, 20 GND hidden, 21 IO, 22 IO-VRN, 23 IO-VRP, 24 M1, 25 M0, 26 M2, 27 IO/CS, 28 IO/RDWR, 29 GND hidden, 30 IO/D7, 31 VCCO_5, 32 IO/D6, 33 VCCAUX(2.5V), 34 IO/D5, 35 IO/D4, 36 IO/GCK2, 37 IO/GCK3, 38 IO/GCK0, 39 IO/GCK1, 40 IO/DOUT/BUSY, 41 GND hidden, 42 IO/INIT, 43 IO/D3, 44 IO/D2, 45 VCCINT(1.2V), 46 VCCO_4, 47 IO/D1, 48 IO/D0/DIN, 51 DONE, 52 CCLK, 53 IO-VRN, 54 IO-VRP, 55 IO, 57 VCCO_3, 58 VCCAUX(2.5V), 59 IO, 60 IO, 61 IO, 62 IO, 63 IO/VREF, 64 IO/VREF, 65 IO, 66 GND hidden, 67 IO, 68 IO, 69 VCCINT(1.2V), 70 VCCO_2, 71 IO, 72 IO, 73 GND hidden, 74 IO-VRN, 75 IO-VRP, 76 TDO, 77 TCK, 78 TMS, 79 IO-VRN, 80 IO-VRP, 81 IO, 82 GND hidden, 83 VCCO_1, 84 VCCAUX(2.5V), 85 IO, 86 IO/VREF, 87 IO/GCLK4, 88 IO/GCLK5, 89 IO/GCK6, 90 IO/GCK7, 91 IO/VREF, 92 IO, 93 VCCINT(1.2V), 94 VCCO_0, 95 GND hidden, 96 IO-VRN, 97 IO-VRP, 98 HSWAP_EN, 99 ~{{PROG}}, 100 TDI
text: Bank7; Bank0; Bank6; Bank1; Bank5; Bank2; Bank4; Bank3

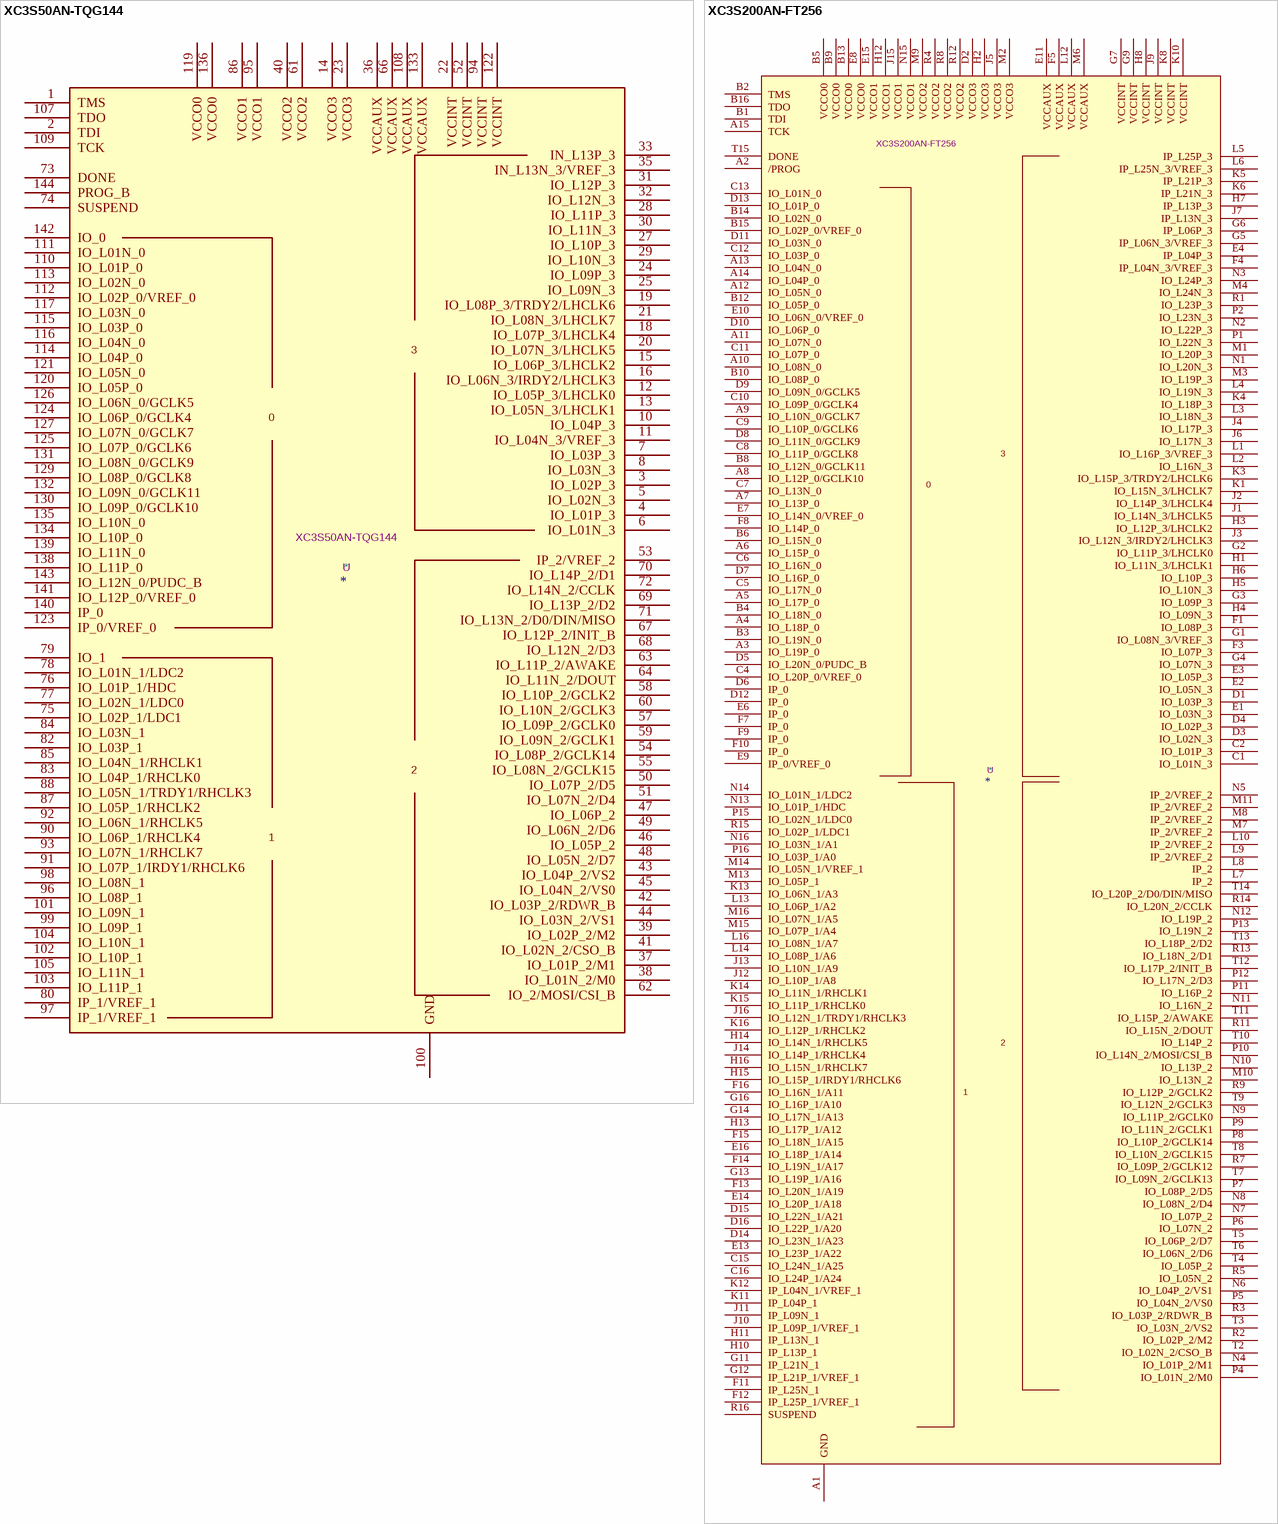
[diagram p4: symbols XC3S50AN-TQG144 to XC3S200AN-FT256]

## XC3S50AN-TQG144
designator *  value XC3S50AN-TQG144  Reference: U
ki_fp_filters: TQFP144
pins: 1 TMS, 2 TDI, 3 IO_L02P_3, 4 IO_L01P_3, 5 IO_L02N_3, 6 IO_L01N_3, 7 IO_L03P_3, 8 IO_L03N_3, 9 GND hidden, 10 IO_L04P_3, 11 IO_L04N_3/VREF_3, 12 IO_L05P_3/LHCLK0, 13 IO_L05N_3/LHCLK1, 14 VCCO3, 15 IO_L06P_3/LHCLK2, 16 IO_L06N_3/IRDY2/LHCLK3, 17 GND hidden, 18 IO_L07P_3/LHCLK4, 19 IO_L08P_3/TRDY2/LHCLK6, 20 IO_L07N_3/LHCLK5, 21 IO_L08N_3/LHCLK7, 22 VCCINT, 23 VCCO3, 24 IO_L09P_3, 25 IO_L09N_3, 26 GND hidden, 27 IO_L10P_3, 28 IO_L11P_3, 29 IO_L10N_3, 30 IO_L11N_3, 31 IO_L12P_3, 32 IO_L12N_3, 33 IN_L13P_3, 34 GND hidden, 35 IN_L13N_3/VREF_3, 36 VCCAUX, 37 IO_L01P_2/M1, 38 IO_L01N_2/M0, 39 IO_L02P_2/M2, 40 VCCO2, 41 IO_L02N_2/CSO_B, 42 IO_L03P_2/RDWR_B, 43 IO_L04P_2/VS2, 44 IO_L03N_2/VS1, 45 IO_L04N_2/VS0, 46 IO_L05P_2, 47 IO_L06P_2, 48 IO_L05N_2/D7, 49 IO_L06N_2/D6, 50 IO_L07P_2/D5, 51 IO_L07N_2/D4, 52 VCCINT, 53 IP_2/VREF_2, 54 IO_L08P_2/GCLK14, 55 IO_L08N_2/GCLK15, 56 GND hidden, 57 IO_L09P_2/GCLK0, 58 IO_L10P_2/GCLK2, 59 IO_L09N_2/GCLK1, 60 IO_L10N_2/GCLK3, 61 VCCO2, 62 IO_2/MOSI/CSI_B, 63 IO_L11P_2/AWAKE, 64 IO_L11N_2/DOUT, 65 GND hidden, 66 VCCAUX, 67 IO_L12P_2/INIT_B, 68 IO_L12N_2/D3, 69 IO_L13P_2/D2, 70 IO_L14P_2/D1, 71 IO_L13N_2/D0/DIN/MISO, 72 IO_L14N_2/CCLK, 73 DONE, 74 SUSPEND, 75 IO_L02P_1/LDC1, 76 IO_L01P_1/HDC, 77 IO_L02N_1/LDC0, 78 IO_L01N_1/LDC2, 79 IO_1, 80 IP_1/VREF_1, 81 GND hidden, 82 IO_L03P_1, 83 IO_L04P_1/RHCLK0, 84 IO_L03N_1, 85 IO_L04N_1/RHCLK1, 86 VCCO1, 87 IO_L05P_1/RHCLK2, 88 IO_L05N_1/TRDY1/RHCLK3, 89 GND hidden, 90 IO_L06P_1/RHCLK4, 91 IO_L07P_1/IRDY1/RHCLK6, 92 IO_L06N_1/RHCLK5, 93 IO_L07N_1/RHCLK7, 94 VCCINT, 95 VCCO1, 96 IO_L08P_1, 97 IP_1/VREF_1, 98 IO_L08N_1, 99 IO_L09P_1, 100 GND, 101 IO_L09N_1, 102 IO_L10P_1, 103 IO_L11P_1, 104 IO_L10N_1, 105 IO_L11N_1, 106 GND hidden, 107 TDO, 108 VCCAUX, 109 TCK, 110 IO_L01P_0, 111 IO_L01N_0, 112 IO_L02P_0/VREF_0, 113 IO_L02N_0, 114 IO_L04P_0, 115 IO_L03P_0, 116 IO_L04N_0, 117 IO_L03N_0, 118 GND hidden, 119 VCCO0, 120 IO_L05P_0, 121 IO_L05N_0, 122 VCCINT, 123 IP_0/VREF_0, 124 IO_L06P_0/GCLK4, 125 IO_L07P_0/GCLK6, 126 IO_L06N_0/GCLK5, 127 IO_L07N_0/GCLK7, 128 GND hidden, 129 IO_L08P_0/GCLK8, 130 IO_L09P_0/GCLK10, 131 IO_L08N_0/GCLK9, 132 IO_L09N_0/GCLK11, 133 VCCAUX, 134 IO_L10P_0, 135 IO_L10N_0, 136 VCCO0, 137 GND hidden, 138 IO_L11P_0, 139 IO_L11N_0, 140 IP_0, 141 IO_L12P_0/VREF_0, 142 IO_0, 143 IO_L12N_0/PUDC_B, 144 PROG_B
text: 0

## XC3S200AN-FT256
designator *  value XC3S200AN-FT256  Reference: U
ki_description: BGA256/1mm; ki_fp_filters: BGA256
pins: A1 GND, A2 /PROG, A3 IO_L19P_0, A4 IO_L18P_0, A5 IO_L17P_0, A6 IO_L15P_0, A7 IO_L13P_0, A8 IO_L12P_0/GCLK10, A9 IO_L10N_0/GCLK7, A10 IO_L08N_0, A11 IO_L07N_0, A12 IO_L05N_0, A13 IO_L04N_0, A14 IO_L04P_0, A15 TCK, A16 GND hidden, B1 TDI, B2 TMS, B3 IO_L19N_0, B4 IO_L18N_0, B5 VCCO0, B6 IO_L15N_0, B7 GND hidden, B8 IO_L12N_0/GCLK11, B9 VCCO0, B10 IO_L08P_0, B11 GND hidden, B12 IO_L05P_0, B13 VCCO0, B14 IO_L02N_0, B15 IO_L02P_0/VREF_0, B16 TDO, C1 IO_L01N_3, C2 IO_L01P_3, C3 GND hidden, C4 IO_L20P_0/VREF_0, C5 IO_L17N_0, C6 IO_L16N_0, C7 IO_L13N_0, C8 IO_L11P_0/GCLK8, C9 IO_L10P_0/GCLK6, C10 IO_L09P_0/GCLK4, C11 IO_L07P_0, C12 IO_L03P_0, C13 IO_L01N_0, C14 GND hidden, C15 IO_L24N_1/A25, C16 IO_L24P_1/A24, D1 IO_L03P_3, D2 VCCO3, D3 IO_L02N_3, D4 IO_L02P_3, D5 IO_L20N_0/PUDC_B, D6 IP_0, D7 IO_L16P_0, D8 IO_L11N_0/GCLK9, D9 IO_L09N_0/GCLK5, D10 IO_L06P_0, D11 IO_L03N_0, D12 IP_0, D13 IO_L01P_0, D14 IO_L23N_1/A23, D15 IO_L22N_1/A21, D16 IO_L22P_1/A20, E1 IO_L03N_3, E2 IO_L05N_3, E3 IO_L05P_3, E4 IP_L04P_3, E5 GND hidden, E6 IP_0, E7 IO_L14N_0/VREF_0, E8 VCCO0, E9 IP_0/VREF_0, E10 IO_L06N_0/VREF_0, E11 VCCAUX, E12 GND hidden, E13 IO_L23P_1/A22, E14 IO_L20P_1/A18, E15 VCCO1, E16 IO_L18P_1/A14, F1 IO_L08P_3, F2 GND hidden, F3 IO_L07P_3, F4 IP_L04N_3/VREF_3, F5 VCCAUX, F6 GND hidden, F7 IP_0, F8 IO_L14P_0, F9 IP_0, F10 IP_0, F11 IP_L25N_1, F12 IP_L25P_1/VREF_1, F13 IO_L20N_1/A19, F14 IO_L19N_1/A17, F15 IO_L18N_1/A15, F16 IO_L16N_1/A11, G1 IO_L08N_3/VREF_3, G2 IO_L11P_3/LHCLK0, G3 IO_L09P_3, G4 IO_L07N_3, G5 IP_L06N_3/VREF_3, G6 IP_L06P_3, G7 VCCINT, G8 GND hidden, G9 VCCINT, G10 GND hidden, G11 IP_L21N_1, G12 IP_L21P_1/VREF_1, G13 IO_L19P_1/A16, G14 IO_L17N_1/A13, G15 GND hidden, G16 IO_L16P_1/A10, H1 IO_L11N_3/LHCLK1, H2 VCCO3, H3 IO_L12P_3/LHCLK2, H4 IO_L09N_3, H5 IO_L10N_3, H6 IO_L10P_3, H7 IP_L13P_3, H8 VCCINT, H9 GND hidden, H10 IP_L13P_1, H11 IP_L13N_1, H12 VCCO1, H13 IO_L17P_1/A12, H14 IO_L14N_1/RHCLK5, H15 IO_L15P_1/IRDY1/RHCLK6, H16 IO_L15N_1/RHCLK7, J1 IO_L14N_3/LHCLK5, J2 IO_L14P_3/LHCLK4, J3 IO_L12N_3/IRDY2/LHCLK3, J4 IO_L17P_3, J5 VCCO3, J6 IO_L17N_3, J7 IP_L13N_3, J8 GND hidden, J9 VCCINT, J10 IP_L09P_1/VREF_1, J11 IP_L09N_1, J12 IO_L10P_1/A8, J13 IO_L10N_1/A9, J14 IO_L14P_1/RHCLK4, J15 VCCO1, J16 IO_L12N_1/TRDY1/RHCLK3, K1 IO_L15N_3/LHCLK7, K2 GND hidden, K3 IO_L15P_3/TRDY2/LHCLK6, K4 IO_L18P_3, K5 IP_L21P_3, K6 IP_L21N_3, K7 GND hidden, K8 VCCINT, K9 GND hidden, K10 VCCINT, K11 IP_L04P_1, K12 IP_L04N_1/VREF_1, K13 IO_L06N_1/A3, K14 IO_L11N_1/RHCLK1, K15 IO_L11P_1/RHCLK0, K16 IO_L12P_1/RHCLK2, L1 IO_L16P_3/VREF_3, L2 IO_L16N_3, L3 IO_L18N_3, L4 IO_L19N_3, L5 IP_L25P_3, L6 IP_L25N_3/VREF_3, L7 IP_2, L8 IP_2, L9 IP_2/VREF_2, L10 IP_2/VREF_2, L11 GND hidden, L12 VCCAUX, L13 IO_L06P_1/A2, L14 IO_L08P_1/A6, L15 GND hidden, L16 IO_L08N_1/A7, M1 IO_L20P_3, M2 VCCO3, M3 IO_L19P_3, M4 IO_L24N_3, M5 GND hidden, M6 VCCAUX, M7 IP_2/VREF_2, M8 IP_2/VREF_2, M9 VCCO2, M10 IO_L13N_2, M11 IP_2/VREF_2, M12 GND hidden, M13 IO_L05P_1, M14 IO_L05N_1/VREF_1, M15 IO_L07P_1/A4, M16 IO_L07N_1/A5, N1 IO_L20N_3, N2 IO_L22P_3, N3 IO_L24P_3, N4 IO_L01P_2/M1, N5 IP_2/VREF_2, N6 IO_L04P_2/VS1, N7 IO_L07P_2, N8 IO_L08N_2/D4, N9 IO_L11P_2/GCLK0, N10 IO_L13P_2, N11 IO_L16N_2, N12 IO_L19P_2, N13 IO_L01P_1/HDC, N14 IO_L01N_1/LDC2, N15 VCCO1, N16 IO_L03N_1/A1, P1 IO_L22N_3, P2 IO_L23N_3, P3 GND hidden, P4 IO_L01N_2/M0, P5 IO_L04N_2/VS0, P6 IO_L07N_2, P7 IO_L08P_2/D5, P8 IO_L10P_2/GCLK14, P9 IO_L11N_2/GCLK1, P10 IO_L14N_2/MOSI/CSI_B, P11 IO_L16P_2, P12 IO_L17N_2/D3, P13 IO_L19N_2, P14 GND hidden, P15 IO_L02N_1/LDC0, P16 IO_L03P_1/A0, R1 IO_L23P_3, R2 IO_L02P_2/M2, R3 IO_L03P_2/RDWR_B, R4 VCCO2, R5 IO_L05N_2, R6 GND hidden, R7 IO_L09P_2/GCLK12, R8 VCCO2, R9 IO_L12P_2/GCLK2, R10 GND hidden, R11 IO_L15N_2/DOUT, R12 VCCO2, R13 IO_L18N_2/D1, R14 IO_L20N_2/CCLK, R15 IO_L02P_1/LDC1, R16 SUSPEND, T1 GND hidden, T2 IO_L02N_2/CSO_B, T3 IO_L03N_2/VS2, T4 IO_L05P_2, T5 IO_L06P_2/D7, T6 IO_L06N_2/D6, T7 IO_L09N_2/GCLK13, T8 IO_L10N_2/GCLK15, T9 IO_L12N_2/GCLK3, T10 IO_L14P_2, T11 IO_L15P_2/AWAKE, T12 IO_L17P_2/INIT_B, T13 IO_L18P_2/D2, T14 IO_L20P_2/D0/DIN/MISO, T15 DONE, T16 GND hidden
text: 3; 0; 2; 1

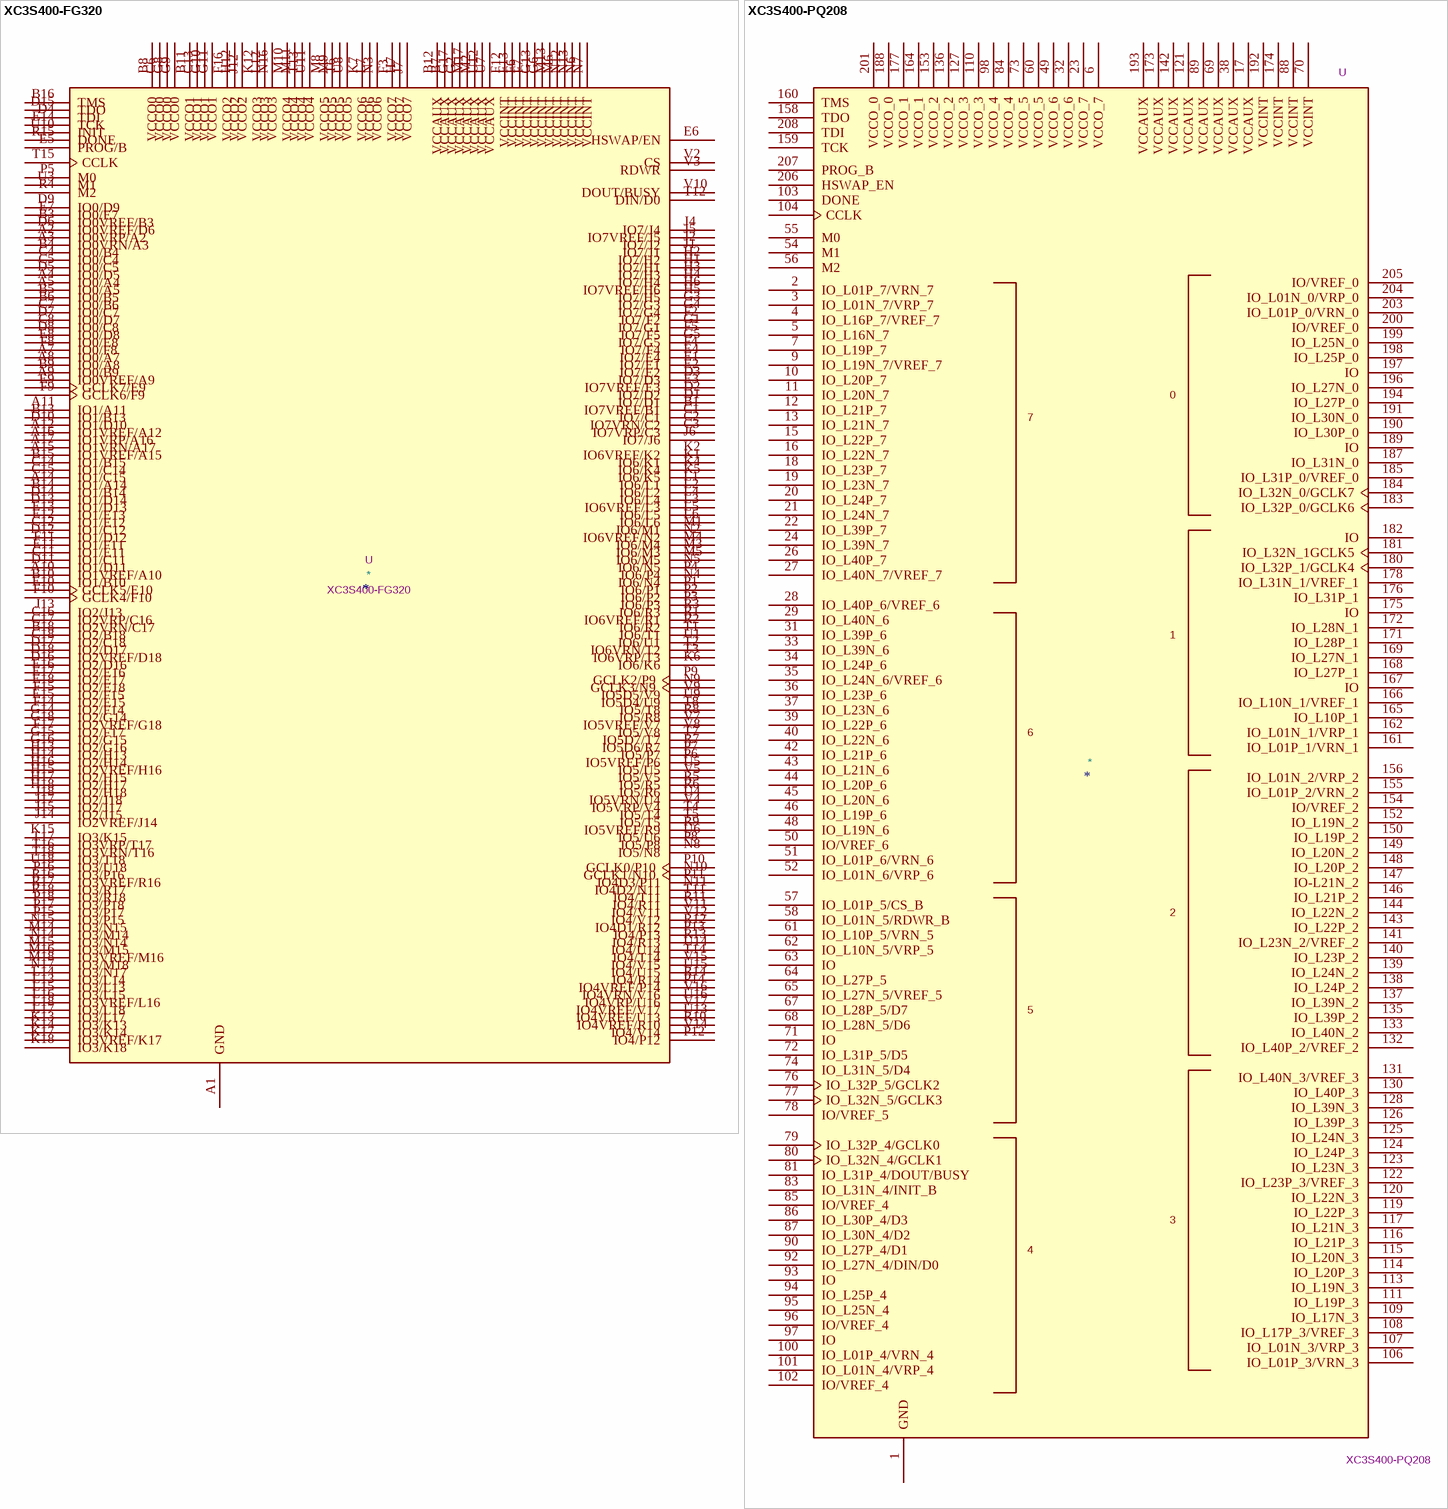
[diagram p5: symbols XC3S400-FG320 to XC3S400-PQ208]

## XC3S400-FG320
designator *  value XC3S400-FG320  Reference: U
pins: A1 GND, A2 IO0VRP/A2, A3 IO0VRN/A3, A4 IO0/A4, A5 IO0/A5, A6 GND hidden, A7 IO0/A7, A8 IO0/A8, A9 IO0VREF/A9, A10 IO1VREF/A10, A11 IO1/A11, A12 IO1VREF/A12, A13 GND hidden, A14 IO1/A14, A15 IO1VREF/A15, A16 IO1VRP/A16, A17 IO1VRN/A17, A18 GND hidden, B1 IO7VREF/B1, B2 GND hidden, B3 IO0VREF/B3, B4 IO0/B4, B5 IO0/B5, B6 IO0/B6, B7 VCCAUX, B8 VCCO0, B9 IO0/B9, B10 IO1/B10, B11 VCCO1, B12 VCCAUX, B13 IO1/B13, B14 IO1/B14, B15 IO1/B15, B16 TMS, B17 GND hidden, B18 IO2/B18, C1 IO7/C1, C2 IO7VRN/C2, C3 IO7VRP/C3, C4 IO0/C4, C5 IO0/C5, C6 VCCO0, C7 IO0/C7, C8 IO0/C8, C9 GND hidden, C10 GND hidden, C11 IO1/C11, C12 IO1/C12, C13 VCCO1, C14 IO1/C14, C15 IO1/C15, C16 IO2VRP/C16, C17 IO2VRN/C17, C18 IO2/C18, D1 IO7/D1, D2 IO7/D2, D3 IO7/D3, D4 TDI, D5 IO0/D5, D6 IO0VREF/D6, D7 IO0/D7, D8 IO0/D8, D9 IO0/D9, D10 IO1/D10, D11 IO1/D11, D12 IO1/D12, D13 IO1/D13, D14 IO1/D14, D15 TDO, D16 IO2/D16, D17 IO2/D17, D18 IO2VREF/D18, E1 IO7/E1, E2 IO7/E2, E3 IO7VREF/E3, E4 IO7/E4, E5 PROG/B, E6 HSWAP/EN, E7 IO0/E7, E8 IO0/E8, E9 GCLK7/E9, E10 GCLK5/E10, E11 IO1/E11, E12 IO1/E12, E13 IO1/E13, E14 TCK, E15 IO2/E15, E16 IO2/E16, E17 IO2/E17, E18 IO2/E18, F1 GND hidden, F2 IO7/F2, F3 VCCO7, F4 IO7/F4, F5 IO7/F5, F6 VCCINT, F7 VCCINT, F8 IO0/F8, F9 GCLK6/F9, F10 GCLK4/F10, F11 IO1/F11, F12 VCCINT, F13 VCCINT, F14 IO2/F14, F15 IO2/F15, F16 VCCO2, F17 IO2/F17, F18 GND hidden, G1 IO7/G1, G2 VCCAUX, G3 IO7/G3, G4 IO7/G4, G5 IO7/G5, G6 VCCINT, G7 GND hidden, G8 VCCO0, G9 VCCO0, G10 VCCO1, G11 VCCO1, G12 GND hidden, G13 VCCINT, G14 IO2/G14, G15 IO2/G15, G16 IO2/G16, G17 VCCAUX, G18 IO2VREF/G18, H1 IO7/H1, H2 IO7/H2, H3 IO7/H3, H4 IO7/H4, H5 IO7/H5, H6 IO7VREF/H6, H7 VCCO7, H8 GND hidden, H9 GND hidden, H10 GND hidden, H11 GND hidden, H12 VCCO2, H13 IO2/H13, H14 IO2/H14, H15 IO2/H15, H16 IO2VREF/H16, H17 IO2/H17, H18 IO2/H18, J1 IO7/J1, J2 IO7/J2, J3 GND hidden, J4 IO7/J4, J5 IO7VREF/J5, J6 IO7/J6, J7 VCCO7, J8 GND hidden, J11 GND hidden, J12 VCCO2, J13 IO2/J13, J14 IO2VREF/J14, J15 IO2/J15, J16 GND hidden, J17 IO2/J17, J18 IO2/J18, K1 IO6/K1, K2 IO6VREF/K2, K3 GND hidden, K4 IO6/K4, K5 IO6/K5, K6 IO6/K6, K7 VCCO6, K8 GND hidden, K11 GND hidden, K12 VCCO3, K13 IO3/K13, K14 IO3/K14, K15 IO3/K15, K16 GND hidden, K17 IO3VREF/K17, K18 IO3/K18, L1 IO6/L1, L2 IO6/L2, L3 IO6VREF/L3, L4 IO6/L4, L5 IO6/L5, L6 IO6/L6, L7 VCCO6, L8 GND hidden, L9 GND hidden, L10 GND hidden, L11 GND hidden, L12 VCCO3, L13 IO3/L13, L14 IO3/L14, L15 IO3/L15, L16 IO3VREF/L16, L17 IO3/L17, L18 IO3/L18, M1 IO6/M1, M2 VCCAUX, M3 IO6/M3, M4 IO6/M4, M5 IO6/M5, M6 VCCINT, M7 GND hidden, M8 VCCO5, M9 VCCO5, M10 VCCO4, M11 VCCO4, M12 GND hidden, M13 VCCINT, M14 IO3/M14, M15 IO3/M15, M16 IO3VREF/M16, M17 VCCAUX, M18 IO3/M18, N1 GND hidden, N2 IO6VREF/N2, N3 VCCO6, N4 IO6/N4, N5 IO6/N5, N6 VCCINT, N7 VCCINT, N8 IO5/N8, N9 GCLK3/N9, N10 GCLK1/N10, N11 IO4D2/N11, N12 VCCINT, N13 VCCINT, N14 IO3/N14, N15 IO3/N15, N16 VCCO3, N17 IO3/N17, N18 GND hidden, P1 IO6/P1, P2 IO6/P2, P3 IO6/P3, P4 IO6/P4, P5 M0, P6 IO5VREF/P6, P7 IO5/P7, P8 IO5/P8, P9 GCLK2/P9, P10 GCLK0/P10, P11 IO4D3/P11, P12 IO4/P12, P13 IO4/P13, P14 IO4VREF/P14, P15 IO3/P15, P16 IO3/P16, P17 IO3/P17, P18 IO3/P18, R1 IO6VREF/R1, R2 IO6/R2, R3 IO6/R3, R4 M2, R5 IO5/R5, R6 IO5/R6, R7 IO5D6/R7, R8 IO5/R8, R9 IO5VREF/R9, R10 IO4VREF/R10, R11 IO4/R11, R12 IO4D1/R12, R13 IO4/R13, R14 IO4/R14, R15 DONE, R16 IO3VREF/R16, R17 IO3/R17, R18 IO3/R18, T1 IO6/T1, T2 IO6VRN/T2, T3 IO6VRP/T3, T4 IO5/T4, T5 IO5/T5, T6 VCCO5, T7 IO5D7/T7, T8 IO5/T8, T9 GND hidden, T10 GND hidden, T11 IO4/T11, T12 DIN/D0, T13 VCCO4, T14 IO4/T14, T15 CCLK, T16 IO3VRN/T16, T17 IO3VRP/T17, T18 IO3/T18, U1 IO6/U1, U2 GND hidden, U3 M1, U4 IO5VRN/U4, U5 IO5/U5, U6 IO5/U6, U7 VCCAUX, U8 VCCO5, U9 IO5D4/U9, U10 INIT, U11 VCCO4, U12 VCCAUX, U13 IO4VREF/U13, U14 IO4/U14, U15 IO4/U15, U16 IO4VRP/U16, U17 GND hidden, U18 IO3/U18, V1 GND hidden, V2 CS, V3 RDWR, V4 IO5VRP/V4, V5 IO5/V5, V6 GND hidden, V7 IO5VREF/V7, V8 IO5/V8, V9 IO5D5/V9, V10 DOUT/BUSY, V11 IO4/V11, V12 IO4/V12, V13 GND hidden, V14 IO4/V14, V15 IO4/V15, V16 IO4VRN/V16, V17 IO4VREF/V17, V18 GND hidden

## XC3S400-PQ208
designator *  value XC3S400-PQ208  Reference: U
pins: 1 GND, 2 IO_L01P_7/VRN_7, 3 IO_L01N_7/VRP_7, 4 IO_L16P_7/VREF_7, 5 IO_L16N_7, 6 VCCO_7, 7 IO_L19P_7, 8 GND hidden, 9 IO_L19N_7/VREF_7, 10 IO_L20P_7, 11 IO_L20N_7, 12 IO_L21P_7, 13 IO_L21N_7, 14 GND hidden, 15 IO_L22P_7, 16 IO_L22N_7, 17 VCCAUX, 18 IO_L23P_7, 19 IO_L23N_7, 20 IO_L24P_7, 21 IO_L24N_7, 22 IO_L39P_7, 23 VCCO_7, 24 IO_L39N_7, 25 GND hidden, 26 IO_L40P_7, 27 IO_L40N_7/VREF_7, 28 IO_L40P_6/VREF_6, 29 IO_L40N_6, 30 GND hidden, 31 IO_L39P_6, 32 VCCO_6, 33 IO_L39N_6, 34 IO_L24P_6, 35 IO_L24N_6/VREF_6, 36 IO_L23P_6, 37 IO_L23N_6, 38 VCCAUX, 39 IO_L22P_6, 40 IO_L22N_6, 41 GND hidden, 42 IO_L21P_6, 43 IO_L21N_6, 44 IO_L20P_6, 45 IO_L20N_6, 46 IO_L19P_6, 47 GND hidden, 48 IO_L19N_6, 49 VCCO_6, 50 IO/VREF_6, 51 IO_L01P_6/VRN_6, 52 IO_L01N_6/VRP_6, 53 GND hidden, 54 M1, 55 M0, 56 M2, 57 IO_L01P_5/CS_B, 58 IO_L01N_5/RDWR_B, 59 GND hidden, 60 VCCO_5, 61 IO_L10P_5/VRN_5, 62 IO_L10N_5/VRP_5, 63 IO, 64 IO_L27P_5, 65 IO_L27N_5/VREF_5, 66 GND hidden, 67 IO_L28P_5/D7, 68 IO_L28N_5/D6, 69 VCCAUX, 70 VCCINT, 71 IO, 72 IO_L31P_5/D5, 73 VCCO_5, 74 IO_L31N_5/D4, 75 GND hidden, 76 IO_L32P_5/GCLK2, 77 IO_L32N_5/GCLK3, 78 IO/VREF_5, 79 IO_L32P_4/GCLK0, 80 IO_L32N_4/GCLK1, 81 IO_L31P_4/DOUT/BUSY, 82 GND hidden, 83 IO_L31N_4/INIT_B, 84 VCCO_4, 85 IO/VREF_4, 86 IO_L30P_4/D3, 87 IO_L30N_4/D2, 88 VCCINT, 89 VCCAUX, 90 IO_L27P_4/D1, 91 GND hidden, 92 IO_L27N_4/DIN/D0, 93 IO, 94 IO_L25P_4, 95 IO_L25N_4, 96 IO/VREF_4, 97 IO, 98 VCCO_4, 99 GND hidden, 100 IO_L01P_4/VRN_4, 101 IO_L01N_4/VRP_4, 102 IO/VREF_4, 103 DONE, 104 CCLK, 105 GND hidden, 106 IO_L01P_3/VRN_3, 107 IO_L01N_3/VRP_3, 108 IO_L17P_3/VREF_3, 109 IO_L17N_3, 110 VCCO_3, 111 IO_L19P_3, 112 GND hidden, 113 IO_L19N_3, 114 IO_L20P_3, 115 IO_L20N_3, 116 IO_L21P_3, 117 IO_L21N_3, 118 GND hidden, 119 IO_L22P_3, 120 IO_L22N_3, 121 VCCAUX, 122 IO_L23P_3/VREF_3, 123 IO_L23N_3, 124 IO_L24P_3, 125 IO_L24N_3, 126 IO_L39P_3, 127 VCCO_3, 128 IO_L39N_3, 129 GND hidden, 130 IO_L40P_3, 131 IO_L40N_3/VREF_3, 132 IO_L40P_2/VREF_2, 133 IO_L40N_2, 134 GND hidden, 135 IO_L39P_2, 136 VCCO_2, 137 IO_L39N_2, 138 IO_L24P_2, 139 IO_L24N_2, 140 IO_L23P_2, 141 IO_L23N_2/VREF_2, 142 VCCAUX, 143 IO_L22P_2, 144 IO_L22N_2, 145 GND hidden, 146 IO_L21P_2, 147 IO-L21N_2, 148 IO_L20P_2, 149 IO_L20N_2, 150 IO_L19P_2, 151 GND hidden, 152 IO_L19N_2, 153 VCCO_2, 154 IO/VREF_2, 155 IO_L01P_2/VRN_2, 156 IO_L01N_2/VRP_2, 157 GND hidden, 158 TDO, 159 TCK, 160 TMS, 161 IO_L01P_1/VRN_1, 162 IO_L01N_1/VRP_1, 163 GND hidden, 164 VCCO_1, 165 IO_L10P_1, 166 IO_L10N_1/VREF_1, 167 IO, 168 IO_L27P_1, 169 IO_L27N_1, 170 GND hidden, 171 IO_L28P_1, 172 IO_L28N_1, 173 VCCAUX, 174 VCCINT, 175 IO, 176 IO_L31P_1, 177 VCCO_1, 178 IO_L31N_1/VREF_1, 179 GND hidden, 180 IO_L32P_1/GCLK4, 181 IO_L32N_1GCLK5, 182 IO, 183 IO_L32P_0/GCLK6, 184 IO_L32N_0/GCLK7, 185 IO_L31P_0/VREF_0, 186 GND hidden, 187 IO_L31N_0, 188 VCCO_0, 189 IO, 190 IO_L30P_0, 191 IO_L30N_0, 192 VCCINT, 193 VCCAUX, 194 IO_L27P_0, 195 GND hidden, 196 IO_L27N_0, 197 IO, 198 IO_L25P_0, 199 IO_L25N_0, 200 IO/VREF_0, 201 VCCO_0, 202 GND hidden, 203 IO_L01P_0/VRN_0, 204 IO_L01N_0/VRP_0, 205 IO/VREF_0, 206 HSWAP_EN, 207 PROG_B, 208 TDI
text: 0

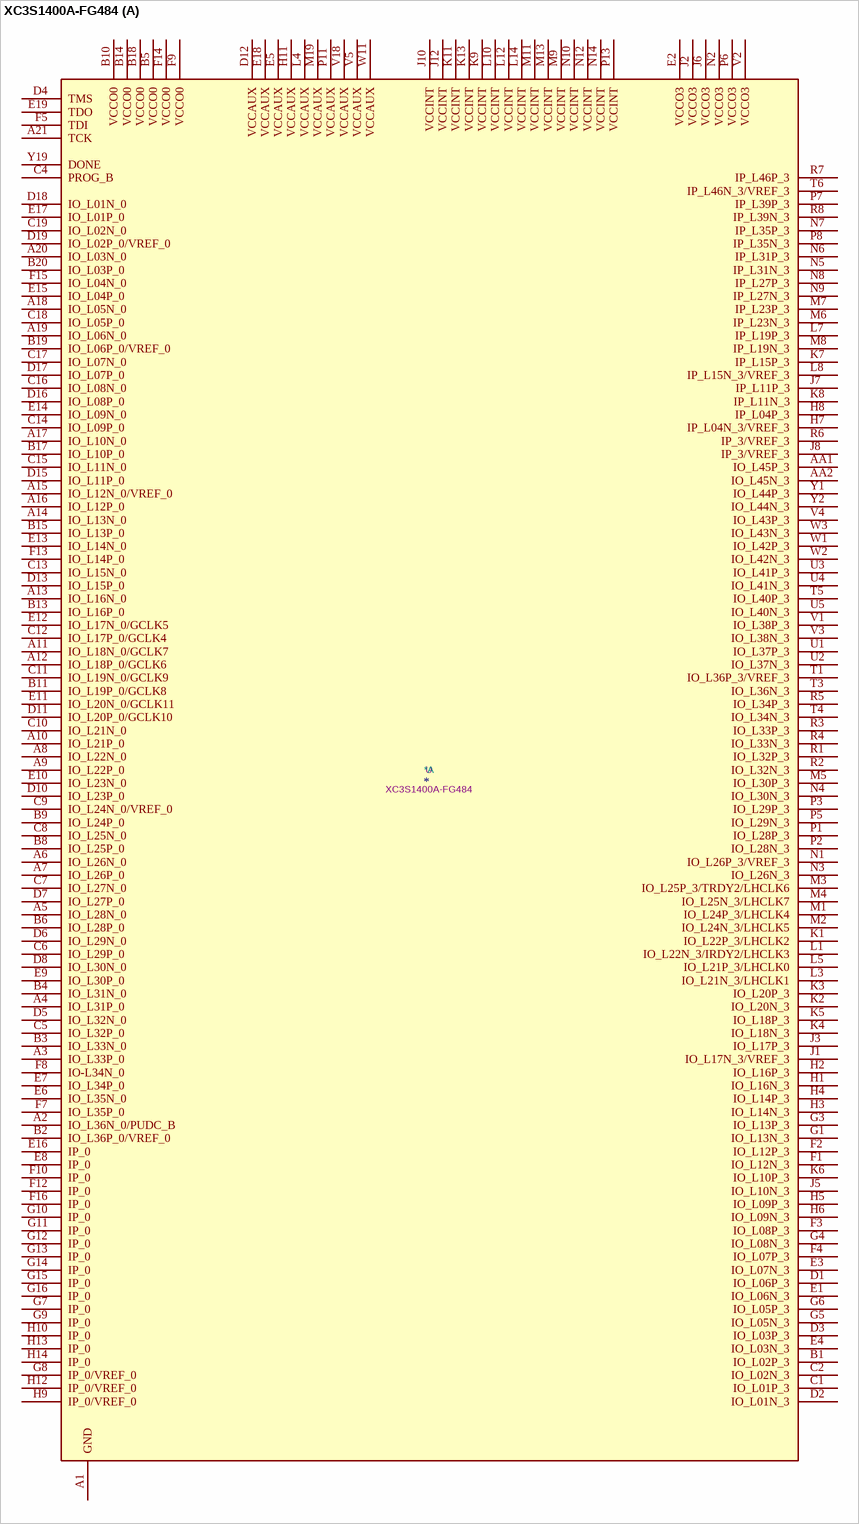
[diagram p6: symbol XC3S1400A-FG484]

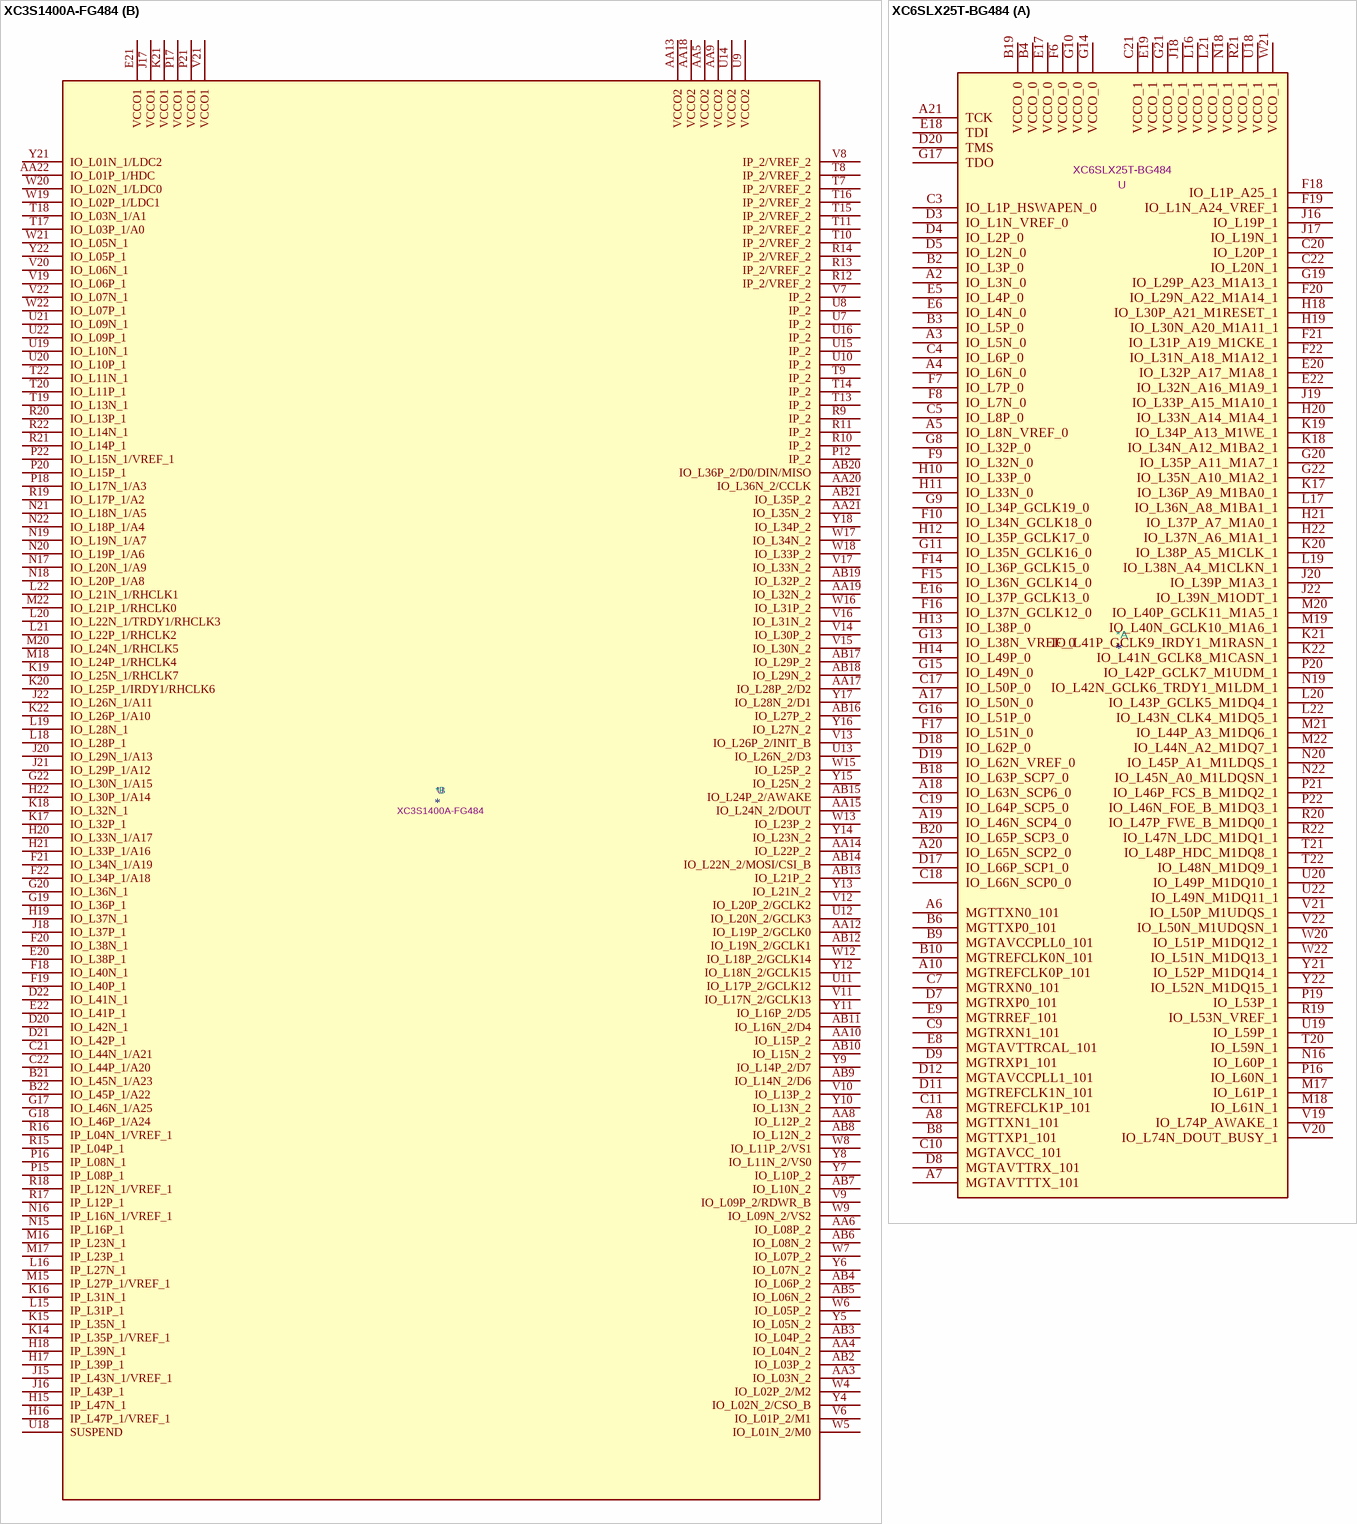
[diagram p7: symbols XC3S1400A-FG484 to XC6SLX25T-BG484]

## XC3S1400A-FG484
designator *  value XC3S1400A-FG484  Reference: U
ki_fp_filters: BGA484
part A pins: A1 GND, A2 IO_L36N_0/PUDC_B, A3 IO_L33P_0, A4 IO_L31P_0, A5 IO_L28N_0, A6 IO_L26N_0, A7 IO_L26P_0, A8 IO_L22N_0, A9 IO_L22P_0, A10 IO_L21P_0, A11 IO_L18N_0/GCLK7, A12 IO_L18P_0/GCLK6, A13 IO_L16N_0, A14 IO_L13N_0, A15 IO_L12N_0/VREF_0, A16 IO_L12P_0, A17 IO_L10N_0, A18 IO_L05N_0, A19 IO_L06N_0, A20 IO_L03N_0, A21 TCK, A22 GND hidden, AA1 IO_L45P_3, AA2 IO_L45N_3, AA7 GND hidden, AA11 GND hidden, AA16 GND hidden, AB1 GND hidden, AB22 GND hidden, B1 IO_L02P_3, B2 IO_L36P_0/VREF_0, B3 IO_L33N_0, B4 IO_L31N_0, B5 VCCO0, B6 IO_L28P_0, B7 GND hidden, B8 IO_L25P_0, B9 IO_L24P_0, B10 VCCO0, B11 IO_L19P_0/GCLK8, B12 GND hidden, B13 IO_L16P_0, B14 VCCO0, B15 IO_L13P_0, B16 GND hidden, B17 IO_L10P_0, B18 VCCO0, B19 IO_L06P_0/VREF_0, B20 IO_L03P_0, C1 IO_L01P_3, C2 IO_L02N_3, C3 GND hidden, C4 PROG_B, C5 IO_L32P_0, C6 IO_L29P_0, C7 IO_L27N_0, C8 IO_L25N_0, C9 IO_L24N_0/VREF_0, C10 IO_L21N_0, C11 IO_L19N_0/GCLK9, C12 IO_L17P_0/GCLK4, C13 IO_L15N_0, C14 IO_L09P_0, C15 IO_L11N_0, C16 IO_L08N_0, C17 IO_L07N_0, C18 IO_L05P_0, C19 IO_L02N_0, C20 GND hidden, D1 IO_L06P_3, D2 IO_L01N_3, D3 IO_L03P_3, D4 TMS, D5 IO_L32N_0, D6 IO_L29N_0, D7 IO_L27P_0, D8 IO_L30N_0, D9 GND hidden, D10 IO_L23P_0, D11 IO_L20P_0/GCLK10, D12 VCCAUX, D13 IO_L15P_0, D14 GND hidden, D15 IO_L11P_0, D16 IO_L08P_0, D17 IO_L07P_0, D18 IO_L01N_0, D19 IO_L02P_0/VREF_0, E1 IO_L06N_3, E2 VCCO3, E3 IO_L07N_3, E4 IO_L03N_3, E5 VCCAUX, E6 IO_L35N_0, E7 IO_L34P_0, E8 IP_0, E9 IO_L30P_0, E10 IO_L23N_0, E11 IO_L20N_0/GCLK11, E12 IO_L17N_0/GCLK5, E13 IO_L14N_0, E14 IO_L09N_0, E15 IO_L04P_0, E16 IP_0, E17 IO_L01P_0, E18 VCCAUX, E19 TDO, F1 IO_L12N_3, F2 IO_L12P_3, F3 IO_L08P_3, F4 IO_L07P_3, F5 TDI, F6 GND hidden, F7 IO_L35P_0, F8 IO-L34N_0, F9 VCCO0, F10 IP_0, F11 GND hidden, F12 IP_0, F13 IO_L14P_0, F14 VCCO0, F15 IO_L04N_0, F16 IP_0, F17 GND hidden, G1 IO_L13N_3, G2 GND hidden, G3 IO_L13P_3, G4 IO_L08N_3, G5 IO_L05N_3, G6 IO_L05P_3, G7 IP_0, G8 IP_0/VREF_0, G9 IP_0, G10 IP_0, G11 IP_0, G12 IP_0, G13 IP_0, G14 IP_0, G15 IP_0, G16 IP_0, G21 GND hidden, H1 IO_L16N_3, H2 IO_L16P_3, H3 IO_L14N_3, H4 IO_L14P_3, H5 IO_L09P_3, H6 IO_L09N_3, H7 IP_L04N_3/VREF_3, H8 IP_L04P_3, H9 IP_0/VREF_0, H10 IP_0, H11 VCCAUX, H12 IP_0/VREF_0, H13 IP_0, H14 IP_0, J1 IO_L17N_3/VREF_3, J2 VCCO3, J3 IO_L17P_3, J4 GND hidden, J5 IO_L10N_3, J6 VCCO3, J7 IP_L11P_3, J8 IP_3/VREF_3, J9 GND hidden, J10 VCCINT, J11 GND hidden, J12 VCCINT, J13 GND hidden, J14 GND hidden, J19 GND hidden, K1 IO_L22P_3/LHCLK2, K2 IO_L20N_3, K3 IO_L20P_3, K4 IO_L18N_3, K5 IO_L18P_3, K6 IO_L10P_3, K7 IP_L15P_3, K8 IP_L11N_3, K9 VCCINT, K10 GND hidden, K11 VCCINT, K12 GND hidden, K13 VCCINT, L1 IO_L22N_3/IRDY2/LHCLK3, L2 GND hidden, L3 IO_L21N_3/LHCLK1, L4 VCCAUX, L5 IO_L21P_3/LHCLK0, L6 GND hidden, L7 IP_L19P_3, L8 IP_L15N_3/VREF_3, L9 GND hidden, L10 VCCINT, L11 GND hidden, L12 VCCINT, L13 GND hidden, L14 VCCINT, L17 GND hidden, M1 IO_L24P_3/LHCLK4, M2 IO_L24N_3/LHCLK5, M3 IO_L25P_3/TRDY2/LHCLK6, M4 IO_L25N_3/LHCLK7, M5 IO_L30P_3, M6 IP_L23N_3, M7 IP_L23P_3, M8 IP_L19N_3, M9 VCCINT, M10 GND hidden, M11 VCCINT, M12 GND hidden, M13 VCCINT, M14 GND hidden, M19 VCCAUX, M21 GND hidden, N1 IO_L26P_3/VREF_3, N2 VCCO3, N3 IO_L26N_3, N4 IO_L30N_3, N5 IP_L31N_3, N6 IP_L31P_3, N7 IP_L35P_3, N8 IP_L27P_3, N9 IP_L27N_3, N10 VCCINT, N11 GND hidden, N12 VCCINT, N13 GND hidden, N14 VCCINT, P1 IO_L28P_3, P2 IO_L28N_3, P3 IO_L29P_3, P4 GND hidden, P5 IO_L29N_3, P6 VCCO3, P7 IP_L39P_3, P8 IP_L35N_3, P9 GND hidden, P10 GND hidden, P11 VCCAUX, P13 VCCINT, P14 GND hidden, P19 GND hidden, R1 IO_L32P_3, R2 IO_L32N_3, R3 IO_L33P_3, R4 IO_L33N_3, R5 IO_L34P_3, R6 IP_3/VREF_3, R7 IP_L46P_3, R8 IP_L39N_3, T1 IO_L36P_3/VREF_3, T2 GND hidden, T3 IO_L36N_3, T4 IO_L34N_3, T5 IO_L40P_3, T6 IP_L46N_3/VREF_3, T12 GND hidden, T21 GND hidden, U1 IO_L37P_3, U2 IO_L37N_3, U3 IO_L41P_3, U4 IO_L41N_3, U5 IO_L40N_3, U6 GND hidden, U17 GND hidden, V1 IO_L38P_3, V2 VCCO3, V3 IO_L38N_3, V4 IO_L43P_3, V5 VCCAUX, V18 VCCAUX, W1 IO_L42P_3, W2 IO_L42N_3, W3 IO_L43N_3, W10 GND hidden, W11 VCCAUX, W14 GND hidden, Y1 IO_L44P_3, Y2 IO_L44N_3, Y3 GND hidden, Y19 DONE, Y20 GND hidden
part B pins: AA3 IO_L03N_2, AA4 IO_L04N_2, AA5 VCCO2, AA6 IO_L08P_2, AA8 IO_L12P_2, AA9 VCCO2, AA10 IO_L15P_2, AA12 IO_L19P_2/GCLK0, AA13 VCCO2, AA14 IO_L22P_2, AA15 IO_L24N_2/DOUT, AA17 IO_L28P_2/D2, AA18 VCCO2, AA19 IO_L32N_2, AA20 IO_L36N_2/CCLK, AA21 IO_L35N_2, AA22 IO_L01P_1/HDC, AB2 IO_L03P_2, AB3 IO_L04P_2, AB4 IO_L06P_2, AB5 IO_L06N_2, AB6 IO_L08N_2, AB7 IO_L10N_2, AB8 IO_L12N_2, AB9 IO_L14N_2/D6, AB10 IO_L15N_2, AB11 IO_L16N_2/D4, AB12 IO_L19N_2/GCLK1, AB13 IO_L21P_2, AB14 IO_L22N_2/MOSI/CSI_B, AB15 IO_L24P_2/AWAKE, AB16 IO_L27P_2, AB17 IO_L29P_2, AB18 IO_L29N_2, AB19 IO_L32P_2, AB20 IO_L36P_2/D0/DIN/MISO, AB21 IO_L35P_2, B21 IO_L45N_1/A23, B22 IO_L45P_1/A22, C21 IO_L44N_1/A21, C22 IO_L44P_1/A20, D20 IO_L42N_1, D21 IO_L42P_1, D22 IO_L41N_1, E20 IO_L38P_1, E21 VCCO1, E22 IO_L41P_1, F18 IO_L40N_1, F19 IO_L40P_1, F20 IO_L38N_1, F21 IO_L34N_1/A19, F22 IO_L34P_1/A18, G17 IO_L46N_1/A25, G18 IO_L46P_1/A24, G19 IO_L36P_1, G20 IO_L36N_1, G22 IO_L30N_1/A15, H15 IP_L47N_1, H16 IP_L47P_1/VREF_1, H17 IP_L39P_1, H18 IP_L39N_1, H19 IO_L37N_1, H20 IO_L33N_1/A17, H21 IO_L33P_1/A16, H22 IO_L30P_1/A14, J15 IP_L43N_1/VREF_1, J16 IP_L43P_1, J17 VCCO1, J18 IO_L37P_1, J20 IO_L29N_1/A13, J21 IO_L29P_1/A12, J22 IO_L26N_1/A11, K14 IP_L35P_1/VREF_1, K15 IP_L35N_1, K16 IP_L31N_1, K17 IO_L32P_1, K18 IO_L32N_1, K19 IO_L25N_1/RHCLK7, K20 IO_L25P_1/IRDY1/RHCLK6, K21 VCCO1, K22 IO_L26P_1/A10, L15 IP_L31P_1, L16 IP_L27N_1, L18 IO_L28P_1, L19 IO_L28N_1, L20 IO_L22N_1/TRDY1/RHCLK3, L21 IO_L22P_1/RHCLK2, L22 IO_L21N_1/RHCLK1, M15 IP_L27P_1/VREF_1, M16 IP_L23N_1, M17 IP_L23P_1, M18 IO_L24P_1/RHCLK4, M20 IO_L24N_1/RHCLK5, M22 IO_L21P_1/RHCLK0, N15 IP_L16P_1, N16 IP_L16N_1/VREF_1, N17 IO_L20N_1/A9, N18 IO_L20P_1/A8, N19 IO_L19N_1/A7, N20 IO_L19P_1/A6, N21 IO_L18N_1/A5, N22 IO_L18P_1/A4, P12 IP_2, P15 IP_L08P_1, P16 IP_L08N_1, P17 VCCO1, P18 IO_L17N_1/A3, P20 IO_L15P_1, P21 VCCO1, P22 IO_L15N_1/VREF_1, R9 IP_2, R10 IP_2, R11 IP_2, R12 IP_2/VREF_2, R13 IP_2/VREF_2, R14 IP_2/VREF_2, R15 IP_L04P_1, R16 IP_L04N_1/VREF_1, R17 IP_L12P_1, R18 IP_L12N_1/VREF_1, R19 IO_L17P_1/A2, R20 IO_L13P_1, R21 IO_L14P_1, R22 IO_L14N_1, T7 IP_2/VREF_2, T8 IP_2/VREF_2, T9 IP_2, T10 IP_2/VREF_2, T11 IP_2/VREF_2, T13 IP_2, T14 IP_2, T15 IP_2/VREF_2, T16 IP_2/VREF_2, T17 IO_L03P_1/A0, T18 IO_L03N_1/A1, T19 IO_L13N_1, T20 IO_L11P_1, T22 IO_L11N_1, U7 IP_2, U8 IP_2, U9 VCCO2, U10 IP_2, U11 IO_L17P_2/GCLK12, U12 IO_L20N_2/GCLK3, U13 IO_L26N_2/D3, U14 VCCO2, U15 IP_2, U16 IP_2, U18 SUSPEND, U19 IO_L10N_1, U20 IO_L10P_1, U21 IO_L09N_1, U22 IO_L09P_1, V6 IO_L01P_2/M1, V7 IP_2, V8 IP_2/VREF_2, V9 IO_L09P_2/RDWR_B, V10 IO_L13P_2, V11 IO_L17N_2/GCLK13, V12 IO_L20P_2/GCLK2, V13 IO_L26P_2/INIT_B, V14 IO_L30P_2, V15 IO_L30N_2, V16 IO_L31N_2, V17 IO_L33N_2, V19 IO_L06P_1, V20 IO_L06N_1, V21 VCCO1, V22 IO_L07N_1, W4 IO_L02P_2/M2, W5 IO_L01N_2/M0, W6 IO_L05P_2, W7 IO_L07P_2, W8 IO_L11P_2/VS1, W9 IO_L09N_2/VS2, W12 IO_L18P_2/GCLK14, W13 IO_L23P_2, W15 IO_L25P_2, W16 IO_L31P_2, W17 IO_L34N_2, W18 IO_L33P_2, W19 IO_L02P_1/LDC1, W20 IO_L02N_1/LDC0, W21 IO_L05N_1, W22 IO_L07P_1, Y4 IO_L02N_2/CSO_B, Y5 IO_L05N_2, Y6 IO_L07N_2, Y7 IO_L10P_2, Y8 IO_L11N_2/VS0, Y9 IO_L14P_2/D7, Y10 IO_L13N_2, Y11 IO_L16P_2/D5, Y12 IO_L18N_2/GCLK15, Y13 IO_L21N_2, Y14 IO_L23N_2, Y15 IO_L25N_2, Y16 IO_L27N_2, Y17 IO_L28N_2/D1, Y18 IO_L34P_2, Y21 IO_L01N_1/LDC2, Y22 IO_L05P_1

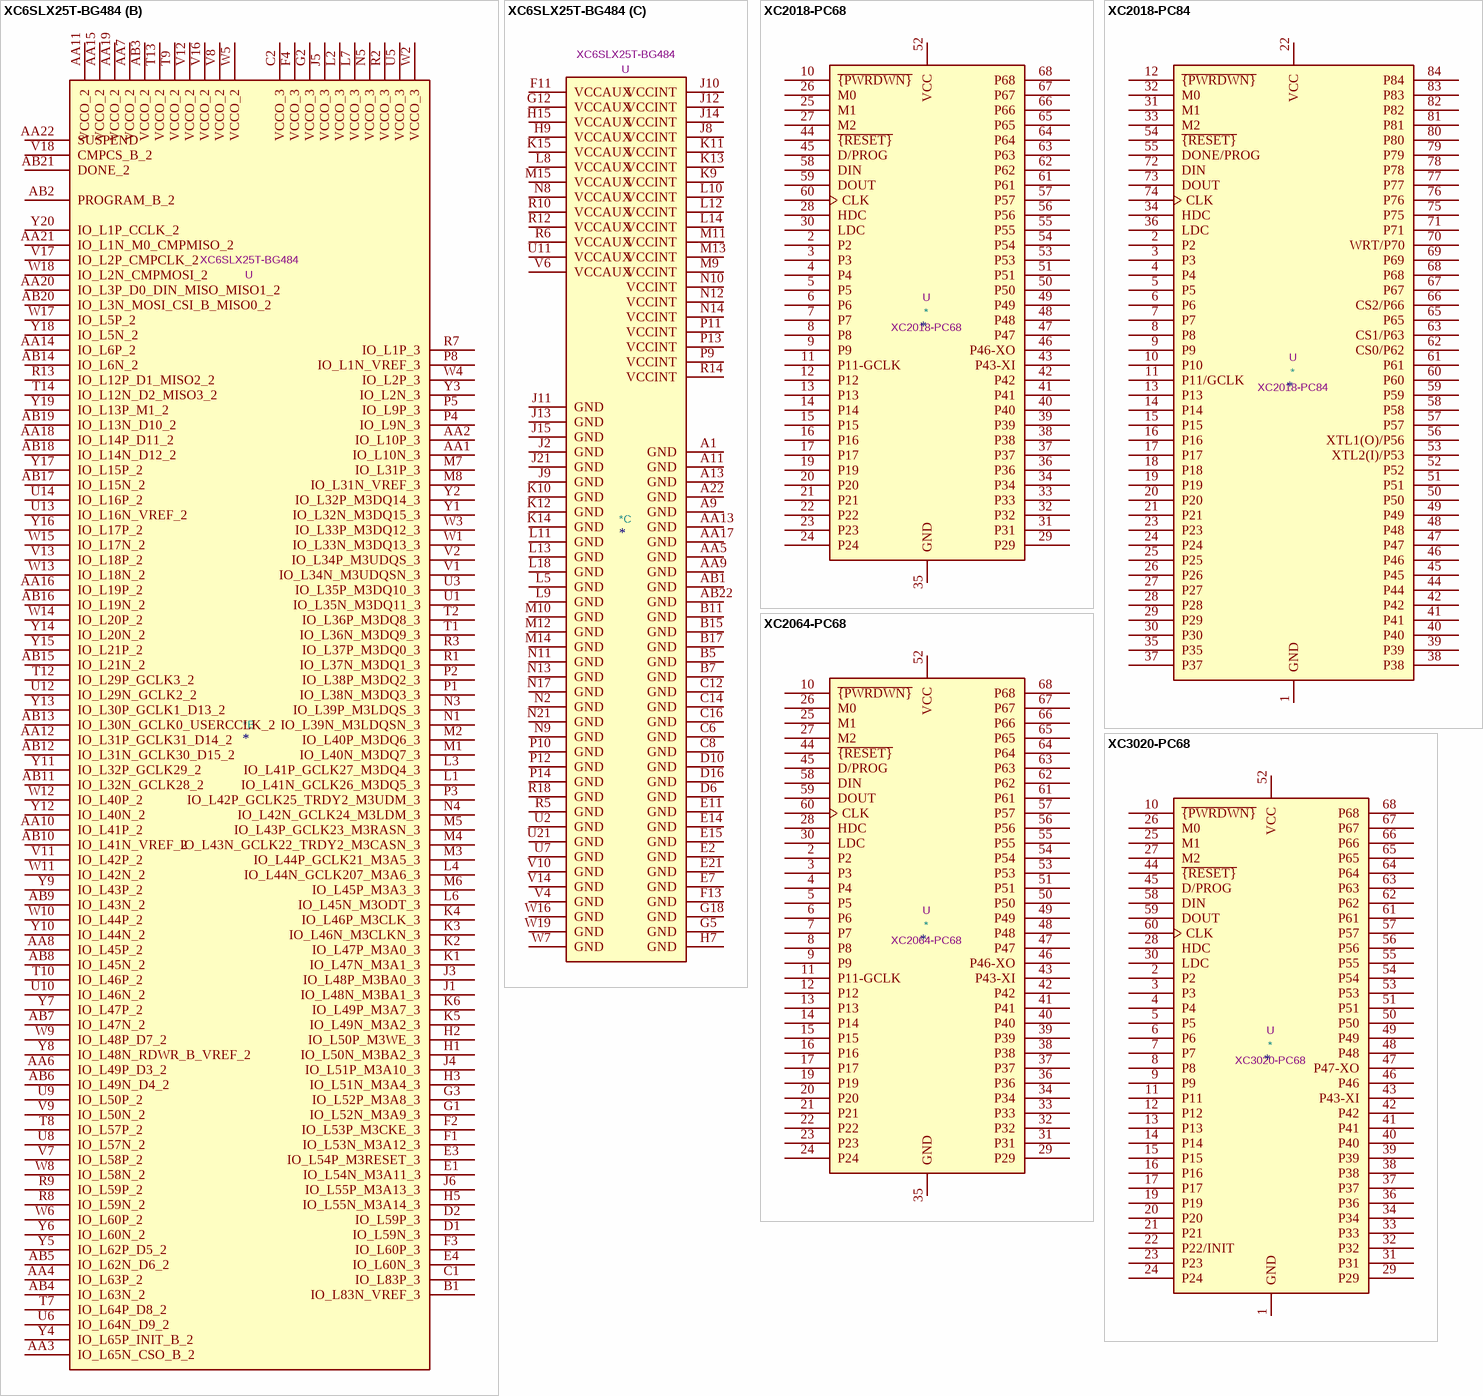
[diagram p8: symbols XC6SLX25T-BG484 to XC3020-PC68]

## XC6SLX25T-BG484
designator *  value XC6SLX25T-BG484  Reference: U
ki_description: SPARTAN-6  FG484
part A pins: A2 IO_L3N_0, A3 IO_L5N_0, A4 IO_L6N_0, A5 IO_L8N_VREF_0, A6 MGTTXN0_101, A7 MGTAVTTTX_101, A8 MGTTXN1_101, A10 MGTREFCLK0P_101, A17 IO_L50N_0, A18 IO_L63N_SCP6_0, A19 IO_L46N_SCP4_0, A20 IO_L65N_SCP2_0, A21 TCK, B2 IO_L3P_0, B3 IO_L5P_0, B4 VCCO_0, B6 MGTTXP0_101, B8 MGTTXP1_101, B9 MGTAVCCPLL0_101, B10 MGTREFCLK0N_101, B18 IO_L63P_SCP7_0, B19 VCCO_0, B20 IO_L65P_SCP3_0, C3 IO_L1P_HSWAPEN_0, C4 IO_L6P_0, C5 IO_L8P_0, C7 MGTRXN0_101, C9 MGTRXN1_101, C10 MGTAVCC_101, C11 MGTREFCLK1P_101, C17 IO_L50P_0, C18 IO_L66N_SCP0_0, C19 IO_L64P_SCP5_0, C20 IO_L20P_1, C21 VCCO_1, C22 IO_L20N_1, D3 IO_L1N_VREF_0, D4 IO_L2P_0, D5 IO_L2N_0, D7 MGTRXP0_101, D8 MGTAVTTRX_101, D9 MGTRXP1_101, D11 MGTREFCLK1N_101, D12 MGTAVCCPLL1_101, D17 IO_L66P_SCP1_0, D18 IO_L62P_0, D19 IO_L62N_VREF_0, D20 TMS, E5 IO_L4P_0, E6 IO_L4N_0, E8 MGTAVTTRCAL_101, E9 MGTRREF_101, E16 IO_L37P_GCLK13_0, E17 VCCO_0, E18 TDI, E19 VCCO_1, E20 IO_L32P_A17_M1A8_1, E22 IO_L32N_A16_M1A9_1, F6 VCCO_0, F7 IO_L7P_0, F8 IO_L7N_0, F9 IO_L32N_0, F10 IO_L34N_GCLK18_0, F14 IO_L36P_GCLK15_0, F15 IO_L36N_GCLK14_0, F16 IO_L37N_GCLK12_0, F17 IO_L51N_0, F18 IO_L1P_A25_1, F19 IO_L1N_A24_VREF_1, F20 IO_L29N_A22_M1A14_1, F21 IO_L31P_A19_M1CKE_1, F22 IO_L31N_A18_M1A12_1, G8 IO_L32P_0, G9 IO_L34P_GCLK19_0, G10 VCCO_0, G11 IO_L35N_GCLK16_0, G13 IO_L38N_VREF_0, G14 VCCO_0, G15 IO_L49N_0, G16 IO_L51P_0, G17 TDO, G19 IO_L29P_A23_M1A13_1, G20 IO_L35P_A11_M1A7_1, G21 VCCO_1, G22 IO_L35N_A10_M1A2_1, H10 IO_L33P_0, H11 IO_L33N_0, H12 IO_L35P_GCLK17_0, H13 IO_L38P_0, H14 IO_L49P_0, H18 IO_L30P_A21_M1RESET_1, H19 IO_L30N_A20_M1A11_1, H20 IO_L33N_A14_M1A4_1, H21 IO_L37P_A7_M1A0_1, H22 IO_L37N_A6_M1A1_1, J16 IO_L19P_1, J17 IO_L19N_1, J18 VCCO_1, J19 IO_L33P_A15_M1A10_1, J20 IO_L39P_M1A3_1, J22 IO_L39N_M1ODT_1, K17 IO_L36P_A9_M1BA0_1, K18 IO_L34N_A12_M1BA2_1, K19 IO_L34P_A13_M1WE_1, K20 IO_L38P_A5_M1CLK_1, K21 IO_L41P_GCLK9_IRDY1_M1RASN_1, K22 IO_L41N_GCLK8_M1CASN_1, L16 VCCO_1, L17 IO_L36N_A8_M1BA1_1, L19 IO_L38N_A4_M1CLKN_1, L20 IO_L43P_GCLK5_M1DQ4_1, L21 VCCO_1, L22 IO_L43N_CLK4_M1DQ5_1, M17 IO_L61P_1, M18 IO_L61N_1, M19 IO_L40N_GCLK10_M1A6_1, M20 IO_L40P_GCLK11_M1A5_1, M21 IO_L44P_A3_M1DQ6_1, M22 IO_L44N_A2_M1DQ7_1, N16 IO_L60P_1, N18 VCCO_1, N19 IO_L42N_GCLK6_TRDY1_M1LDM_1, N20 IO_L45P_A1_M1LDQS_1, N22 IO_L45N_A0_M1LDQSN_1, P16 IO_L60N_1, P19 IO_L53P_1, P20 IO_L42P_GCLK7_M1UDM_1, P21 IO_L46P_FCS_B_M1DQ2_1, P22 IO_L46N_FOE_B_M1DQ3_1, R19 IO_L53N_VREF_1, R20 IO_L47P_FWE_B_M1DQ0_1, R21 VCCO_1, R22 IO_L47N_LDC_M1DQ1_1, T20 IO_L59N_1, T21 IO_L48P_HDC_M1DQ8_1, T22 IO_L48N_M1DQ9_1, U18 VCCO_1, U19 IO_L59P_1, U20 IO_L49P_M1DQ10_1, U22 IO_L49N_M1DQ11_1, V19 IO_L74P_AWAKE_1, V20 IO_L74N_DOUT_BUSY_1, V21 IO_L50P_M1UDQS_1, V22 IO_L50N_M1UDQSN_1, W20 IO_L51P_M1DQ12_1, W21 VCCO_1, W22 IO_L51N_M1DQ13_1, Y21 IO_L52P_M1DQ14_1, Y22 IO_L52N_M1DQ15_1
part B pins: AA1 IO_L10N_3, AA2 IO_L10P_3, AA3 IO_L65N_CSO_B_2, AA4 IO_L63P_2, AA6 IO_L49P_D3_2, AA7 VCCO_2, AA8 IO_L45P_2, AA10 IO_L41P_2, AA11 VCCO_2, AA12 IO_L31P_GCLK31_D14_2, AA14 IO_L6P_2, AA15 VCCO_2, AA16 IO_L19P_2, AA18 IO_L14P_D11_2, AA19 VCCO_2, AA20 IO_L3P_D0_DIN_MISO_MISO1_2, AA21 IO_L1N_M0_CMPMISO_2, AA22 SUSPEND, AB2 PROGRAM_B_2, AB3 VCCO_2, AB4 IO_L63N_2, AB5 IO_L62N_D6_2, AB6 IO_L49N_D4_2, AB7 IO_L47N_2, AB8 IO_L45N_2, AB9 IO_L43N_2, AB10 IO_L41N_VREF_2, AB11 IO_L32N_GCLK28_2, AB12 IO_L31N_GCLK30_D15_2, AB13 IO_L30N_GCLK0_USERCCLK_2, AB14 IO_L6N_2, AB15 IO_L21N_2, AB16 IO_L19N_2, AB17 IO_L15N_2, AB18 IO_L14N_D12_2, AB19 IO_L13N_D10_2, AB20 IO_L3N_MOSI_CSI_B_MISO0_2, AB21 DONE_2, B1 IO_L83N_VREF_3, C1 IO_L83P_3, C2 VCCO_3, D1 IO_L59N_3, D2 IO_L59P_3, E1 IO_L54N_M3A11_3, E3 IO_L54P_M3RESET_3, E4 IO_L60N_3, F1 IO_L53N_M3A12_3, F2 IO_L53P_M3CKE_3, F3 IO_L60P_3, F4 VCCO_3, G1 IO_L52N_M3A9_3, G2 VCCO_3, G3 IO_L52P_M3A8_3, H1 IO_L50N_M3BA2_3, H2 IO_L50P_M3WE_3, H3 IO_L51N_M3A4_3, H5 IO_L55N_M3A14_3, J1 IO_L48N_M3BA1_3, J3 IO_L48P_M3BA0_3, J4 IO_L51P_M3A10_3, J5 VCCO_3, J6 IO_L55P_M3A13_3, K1 IO_L47N_M3A1_3, K2 IO_L47P_M3A0_3, K3 IO_L46N_M3CLKN_3, K4 IO_L46P_M3CLK_3, K5 IO_L49N_M3A2_3, K6 IO_L49P_M3A7_3, L1 IO_L41N_GCLK26_M3DQ5_3, L2 VCCO_3, L3 IO_L41P_GCLK27_M3DQ4_3, L4 IO_L44N_GCLK207_M3A6_3, L6 IO_L45N_M3ODT_3, L7 VCCO_3, M1 IO_L40N_M3DQ7_3, M2 IO_L40P_M3DQ6_3, M3 IO_L44P_GCLK21_M3A5_3, M4 IO_L43N_GCLK22_TRDY2_M3CASN_3, M5 IO_L43P_GCLK23_M3RASN_3, M6 IO_L45P_M3A3_3, M7 IO_L31P_3, M8 IO_L31N_VREF_3, N1 IO_L39N_M3LDQSN_3, N3 IO_L39P_M3LDQS_3, N4 IO_L42N_GCLK24_M3LDM_3, N5 VCCO_3, P1 IO_L38N_M3DQ3_3, P2 IO_L38P_M3DQ2_3, P3 IO_L42P_GCLK25_TRDY2_M3UDM_3, P4 IO_L9N_3, P5 IO_L9P_3, P8 IO_L1N_VREF_3, R1 IO_L37N_M3DQ1_3, R2 VCCO_3, R3 IO_L37P_M3DQ0_3, R7 IO_L1P_3, R8 IO_L59N_2, R9 IO_L59P_2, R13 IO_L12P_D1_MISO2_2, T1 IO_L36N_M3DQ9_3, T2 IO_L36P_M3DQ8_3, T7 IO_L64P_D8_2, T8 IO_L57P_2, T9 VCCO_2, T10 IO_L46P_2, T12 IO_L29P_GCLK3_2, T13 VCCO_2, T14 IO_L12N_D2_MISO3_2, U1 IO_L35N_M3DQ11_3, U3 IO_L35P_M3DQ10_3, U5 VCCO_3, U6 IO_L64N_D9_2, U8 IO_L57N_2, U9 IO_L50P_2, U10 IO_L46N_2, U12 IO_L29N_GCLK2_2, U13 IO_L16N_VREF_2, U14 IO_L16P_2, V1 IO_L34N_M3UDQSN_3, V2 IO_L34P_M3UDQS_3, V7 IO_L58P_2, V8 VCCO_2, V9 IO_L50N_2, V11 IO_L42P_2, V12 VCCO_2, V13 IO_L18P_2, V16 VCCO_2, V17 IO_L2P_CMPCLK_2, V18 CMPCS_B_2, W1 IO_L33N_M3DQ13_3, W2 VCCO_3, W3 IO_L33P_M3DQ12_3, W4 IO_L2P_3, W5 VCCO_2, W6 IO_L60P_2, W8 IO_L58N_2, W9 IO_L48P_D7_2, W10 IO_L44P_2, W11 IO_L42N_2, W12 IO_L40P_2, W13 IO_L18N_2, W14 IO_L20P_2, W15 IO_L17N_2, W17 IO_L5P_2, W18 IO_L2N_CMPMOSI_2, Y1 IO_L32N_M3DQ15_3, Y2 IO_L32P_M3DQ14_3, Y3 IO_L2N_3, Y4 IO_L65P_INIT_B_2, Y5 IO_L62P_D5_2, Y6 IO_L60N_2, Y7 IO_L47P_2, Y8 IO_L48N_RDWR_B_VREF_2, Y9 IO_L43P_2, Y10 IO_L44N_2, Y11 IO_L32P_GCLK29_2, Y12 IO_L40N_2, Y13 IO_L30P_GCLK1_D13_2, Y14 IO_L20N_2, Y15 IO_L21P_2, Y16 IO_L17P_2, Y17 IO_L15P_2, Y18 IO_L5N_2, Y19 IO_L13P_M1_2, Y20 IO_L1P_CCLK_2
part C pins: A1 GND, A9 GND, A11 GND, A13 GND, A22 GND, AA5 GND, AA9 GND, AA13 GND, AA17 GND, AB1 GND, AB22 GND, B5 GND, B7 GND, B11 GND, B15 GND, B17 GND, C6 GND, C8 GND, C12 GND, C14 GND, C16 GND, D6 GND, D10 GND, D16 GND, E2 GND, E7 GND, E11 GND, E14 GND, E15 GND, E21 GND, F11 VCCAUX, F13 GND, G5 GND, G12 VCCAUX, G18 GND, H7 GND, H9 VCCAUX, H15 VCCAUX, J2 GND, J8 VCCINT, J9 GND, J10 VCCINT, J11 GND, J12 VCCINT, J13 GND, J14 VCCINT, J15 GND, J21 GND, K9 VCCINT, K10 GND, K11 VCCINT, K12 GND, K13 VCCINT, K14 GND, K15 VCCAUX, L5 GND, L8 VCCAUX, L9 GND, L10 VCCINT, L11 GND, L12 VCCINT, L13 GND, L14 VCCINT, L18 GND, M9 VCCINT, M10 GND, M11 VCCINT, M12 GND, M13 VCCINT, M14 GND, M15 VCCAUX, N2 GND, N8 VCCAUX, N9 GND, N10 VCCINT, N11 GND, N12 VCCINT, N13 GND, N14 VCCINT, N17 GND, N21 GND, P9 VCCINT, P10 GND, P11 VCCINT, P12 GND, P13 VCCINT, P14 GND, R5 GND, R6 VCCAUX, R10 VCCAUX, R12 VCCAUX, R14 VCCINT, R18 GND, U2 GND, U7 GND, U11 VCCAUX, U21 GND, V4 GND, V6 VCCAUX, V10 GND, V14 GND, W7 GND, W16 GND, W19 GND

## XC2018-PC68
designator *  value XC2018-PC68  Reference: U
pins: 1 GND hidden, 2 P2, 3 P3, 4 P4, 5 P5, 6 P6, 7 P7, 8 P8, 9 P9, 10 ~{{PWRDWN}}, 11 P11-GCLK, 12 P12, 13 P13, 14 P14, 15 P15, 16 P16, 17 P17, 18 VCC hidden, 19 P19, 20 P20, 21 P21, 22 P22, 23 P23, 24 P24, 25 M1, 26 M0, 27 M2, 28 HDC, 29 P29, 30 LDC, 31 P31, 32 P32, 33 P33, 34 P34, 35 GND, 36 P36, 37 P37, 38 P38, 39 P39, 40 P40, 41 P41, 42 P42, 43 P43-XI, 44 ~{{RESET}}, 45 D/PROG, 46 P46-XO, 47 P47, 48 P48, 49 P49, 50 P50, 51 P51, 52 VCC, 53 P53, 54 P54, 55 P55, 56 P56, 57 P57, 58 DIN, 59 DOUT, 60 CLK, 61 P61, 62 P62, 63 P63, 64 P64, 65 P65, 66 P66, 67 P67, 68 P68